# Altium schematic symbol library SGK_DVR_01_Library.SchLib: 230 symbols (part 2 of 3)
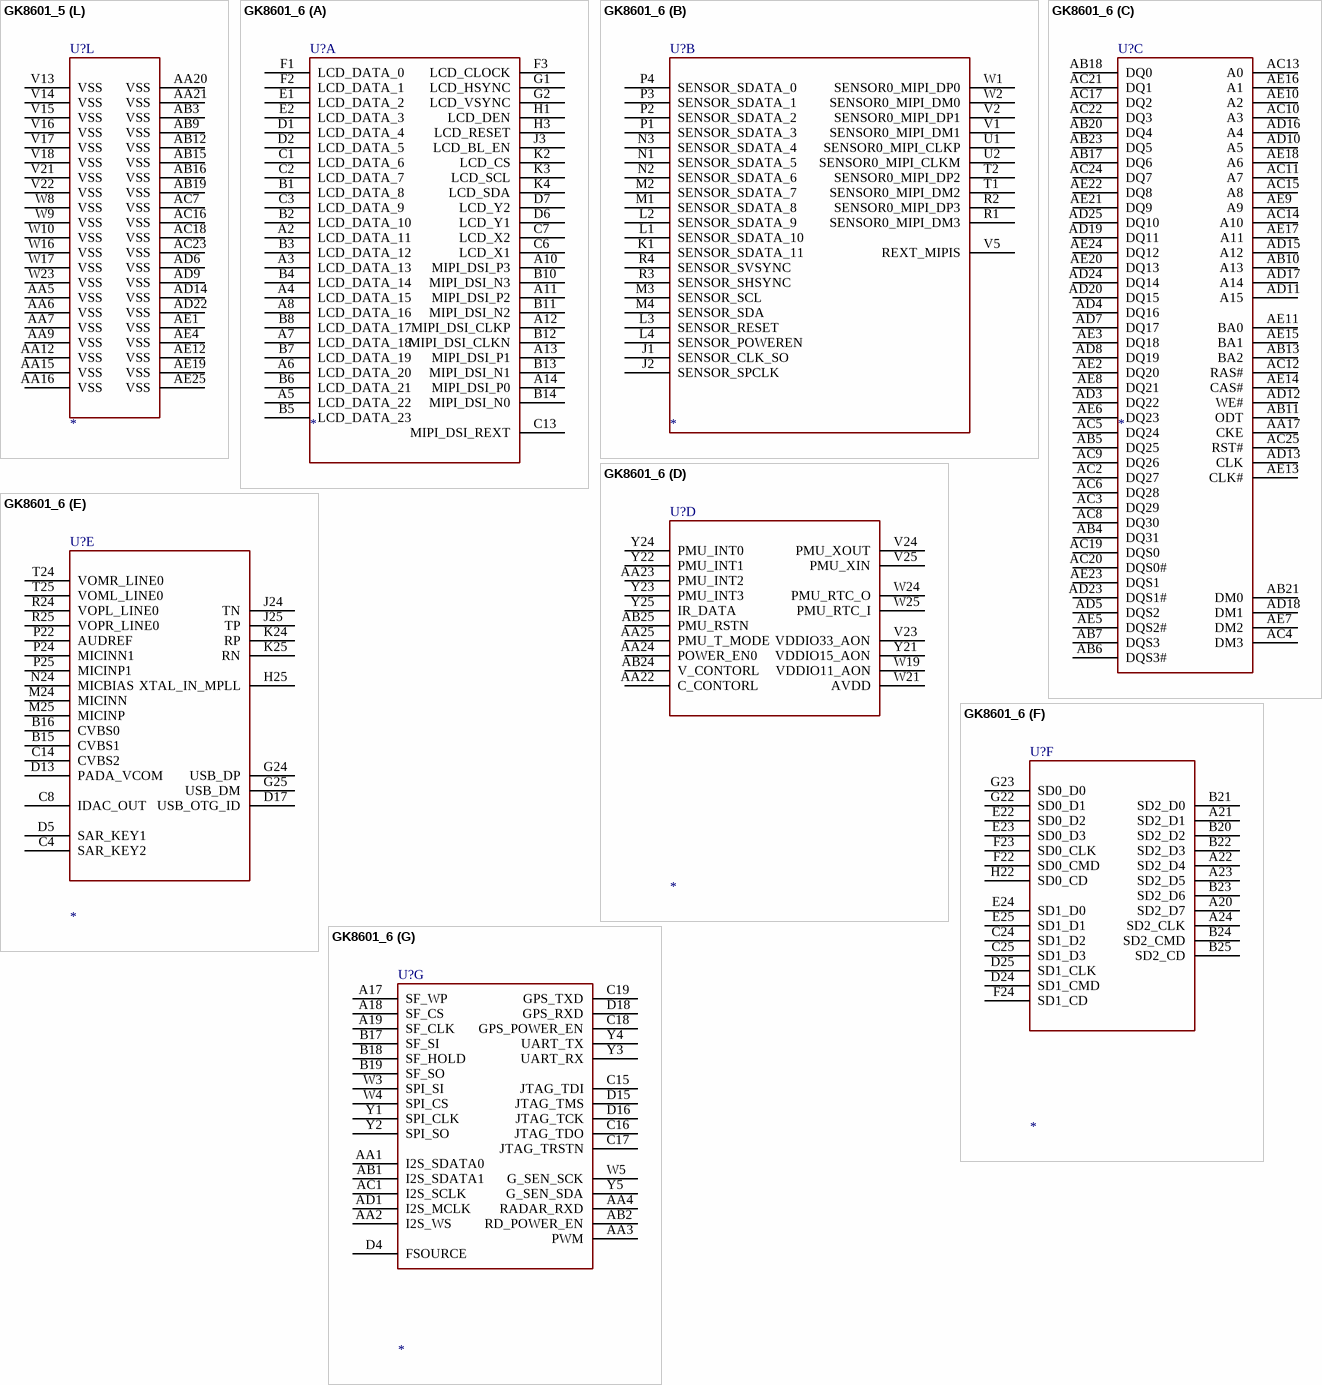
[diagram p31: symbols GK8601_5 to GK8601_6]

## GK8601_5
designator U?
part A pins: A2 LCD_DATA_11, A3 LCD_DATA_13, A4 LCD_DATA_15, A5 LCD_DATA_22, A6 LCD_DATA_20, A7 LCD_DATA_18, A8 LCD_DATA_16, A10 MIPI_DSI_P3, A11 MIPI_DSI_P2, A12 MIPI_DSI_CLKP, A13 MIPI_DSI_P1, A14 MIPI_DSI_P0, B1 LCD_DATA_8, B2 LCD_DATA_10, B3 LCD_DATA_12, B4 LCD_DATA_14, B5 LCD_DATA_23, B6 LCD_DATA_21, B7 LCD_DATA_19, B8 LCD_DATA_17, B10 MIPI_DSI_N3, B11 MIPI_DSI_N2, B12 MIPI_DSI_CLKN, B13 MIPI_DSI_N1, B14 MIPI_DSI_N0, C1 LCD_DATA_6, C2 LCD_DATA_7, C3 LCD_DATA_9, C6 LCD_X1, C7 LCD_X2, C13 MIPI_DSI_REXT, D1 LCD_DATA_4, D2 LCD_DATA_5, D6 LCD_Y1, D7 LCD_Y2, E1 LCD_DATA_2, E2 LCD_DATA_3, F1 LCD_DATA_0, F2 LCD_DATA_1, F3 LCD_CLOCK, G1 LCD_HSYNC, G2 LCD_VSYNC, H1 LCD_DEN, H3 LCD_RESET, J3 LCD_BL_EN, K2 LCD_CS, K3 LCD_SCL, K4 LCD_SDA
part B pins: J1 SENSOR_CLK_SO, J2 SENSOR_SPCLK, K1 SENSOR_SDATA_11, L1 SENSOR_SDATA_10, L2 SENSOR_SDATA_9, L3 SENSOR_RESET, L4 SENSOR_POWEREN, M1 SENSOR_SDATA_8, M2 SENSOR_SDATA_7, M3 SENSOR_SCL, M4 SENSOR_SDA, N1 SENSOR_SDATA_5, N2 SENSOR_SDATA_6, N3 SENSOR_SDATA_4, P1 SENSOR_SDATA_3, P2 SENSOR_SDATA_2, P3 SENSOR_SDATA_1, P4 SENSOR_SDATA_0, R1 SENSOR0_MIPI_DM3, R2 SENSOR0_MIPI_DP3, R3 SENSOR_SHSYNC, R4 SENSOR_SVSYNC, T1 SENSOR0_MIPI_DM2, T2 SENSOR0_MIPI_DP2, U1 SENSOR0_MIPI_CLKP, U2 SENSOR0_MIPI_CLKM, V1 SENSOR0_MIPI_DM1, V2 SENSOR0_MIPI_DP1, V5 REXT_MIPIS, W1 SENSOR0_MIPI_DP0, W2 SENSOR0_MIPI_DM0
part C pins: AA17 CKE, AB4 DQ31, AB5 DQ25, AB6 DQS3#, AB7 DQS3, AB10 A13, AB11 ODT, AB13 BA2, AB17 DQ6, AB18 DQ0, AB20 DQ4, AB21 DM0, AB23 DQ5, AC2 DQ27, AC3 DQ29, AC4 DM3, AC5 DQ24, AC6 DQ28, AC8 DQ30, AC9 DQ26, AC10 A3, AC11 A7, AC12 RAS#, AC13 A0, AC14 A10, AC15 A8, AC17 DQ2, AC19 DQS0, AC20 DQS0#, AC21 DQ1, AC22 DQ3, AC24 DQ7, AC25 RST#, AD3 DQ22, AD4 DQ16, AD5 DQS2, AD7 DQ17, AD8 DQ19, AD10 A5, AD11 A15, AD12 WE#, AD13 CLK, AD15 A12, AD16 A4, AD17 A14, AD18 DM1, AD19 DQ11, AD20 DQ15, AD23 DQS1#, AD24 DQ14, AD25 DQ10, AE2 DQ20, AE3 DQ18, AE5 DQS2#, AE6 DQ23, AE7 DM2, AE8 DQ21, AE9 A9, AE10 A2, AE11 BA0, AE13 CLK#, AE14 CAS#, AE15 BA1, AE16 A1, AE17 A11, AE18 A6, AE20 DQ13, AE21 DQ9, AE22 DQ8, AE23 DQS1, AE24 DQ12
part D pins: AA22 C_CONTORL, AA23 PMU_INT2, AA24 POWER_EN0, AA25 PMU_T_MODE, AB24 V_CONTORL, AB25 PMU_RSTN, V23 VDDIO33_AON, V24 PMU_XOUT, V25 PMU_XIN, W19 VDDIO11_AON, W21 AVDD, W24 PMU_RTC_O, W25 PMU_RTC_I, Y21 VDDIO15_AON, Y22 PMU_INT1, Y23 PMU_INT3, Y24 PMU_INT0, Y25 IR_DATA
part E pins: B15 CVBS1, B16 CVBS0, C4 SAR_KEY2, C8 IDAC_OUT, C14 CVBS2, D5 SAR_KEY1, D13 PADA_VCOM, D17 USB_OTG_ID, G24 USB_DP, G25 USB_DM, H25 XTAL_IN_MPLL, J24 TN, J25 TP, K24 RP, K25 RN, M24 MICINN, M25 MICINP, N24 MICBIAS, P22 AUDREF, P24 MICINN1, P25 MICINP1, R24 VOPL_LINE0, R25 VOPR_LINE0, T24 VOMR_LINE0, T25 VOML_LINE0
part F pins: A20 SD2_D7, A21 SD2_D1, A22 SD2_D4, A23 SD2_D5, A24 SD2_CLK, B20 SD2_D2, B21 SD2_D0, B22 SD2_D3, B23 SD2_D6, B24 SD2_CMD, B25 SD2_CD, C24 SD1_D2, C25 SD1_D3, D24 SD1_CMD, D25 SD1_CLK, E22 SD0_D2, E23 SD0_D3, E24 SD1_D0, E25 SD1_D1, F22 SD0_CMD, F23 SD0_CLK, F24 SD1_CD, G22 SD0_D1, G23 SD0_D0, H22 SD0_CD
part G pins: A17 SF_WP, A18 SF_CS, A19 SF_CLK, AA1 I2S_SDATA0, AA2 I2S_WS, AA3 PWM, AA4 RADAR_RXD, AB1 I2S_SDATA1, AB2 RD_POWER_EN, AC1 I2S_SCLK, AD1 I2S_MCLK, B17 SF_SI, B18 SF_HOLD, B19 SF_SO, C15 JTAG_TDI, C16 JTAG_TDO, C17 JTAG_TRSTN, C18 GPS_POWER_EN, C19 GPS_TXD, D4 FSOURCE, D15 JTAG_TMS, D16 JTAG_TCK, D18 GPS_RXD, W3 SPI_SI, W4 SPI_CS, W5 G_SEN_SCK, Y1 SPI_CLK, Y2 SPI_SO, Y3 UART_RX, Y4 UART_TX, Y5 G_SEN_SDA
part H pins: AA8 VDD11, AA10 DVDD_DDR, AA11 VDD11, AA13 VDD15, AA14 VDD15, AA18 VDD11, AA19 VDD11, AB8 VDD15, AB14 VDD15, AB22 VREF, AD2 VDD15, AD21 VDD15, C20 VDDIO33_SD2, D9 AVDD_MIPIM, D21 VDD11, D22 VDDIO33_SD1, E6 AVDD3P2_AUX_, E8 AVDD33_IDAC, E9 AVDD_MIPIM, E12 AVDD3P3_VIDEO, E14 VDDIO33, E15 VDDIO33, E16 VDDIO33_ARM, E17 VDD11_ARM, E20 VDD11, E21 VDD11, G3 VDDIO33, G4 VDDIO33, G5 VDDIO33, G16 VDD11_ARM, H23 VDDIO33, J4 VDD11, J5 VDD11, J21 VDD11_ARM, J22 VDDIO33_ARM, K5 VDD11, K21 AVDDLV_USB, K22 AVDD3P3_USB, L5 VDD11, L22 AVDD33_MPLL, M22 AVDD11_PLL, M23 AVDD33_PLL, N5 VDDIO33_SR, N21 VDDIO33, P5 VDDIO33_SR, P21 AVDD33_ETH, R5 VDD11, R21 VABB_DRV_AUDIO, U3 AVDD_MIPIS, U4 AVDD_MIPIS, U5 AVDD_MIPIS, U19 VDD11, U21 VDD11, V7 VDDIO33, V19 VDD11, W7 VDDIO33, W11 AVDD_PLL, W12 VDD15, W13 VDD15, W14 VDD15, W15 VDD11, W18 DVDD_DDR, W22 VDDIO33
part I pins: A1 VSS, A9 VSS, A15 AVSS_ADC, A16 AVSS_ADC, A25 VSS, B9 AGND, C5 VSS, C9 VSS, C10 AGND, C11 AGND, C12 AGND, C21 VSS, C22 VSS, C23 VSS, D3 VSS, D8 VSS, D10 AGND, D11 VSS, D12 VSS, D14 VSS, D19 VSS, D20 VSS, D23 VSS, E3 VSS, E4 VSS, E5 VSS, E7 VSS, E10 AGND, E11 VSS, E13 VSS, E18 VSS, E19 VSS, F4 VSS, F5 VSS, F21 VSS, F25 AVSS_USB, G7 VSS, G8 VSS, G9 VSS, G10 VSS, G11 VSS, G12 VSS, G13 VSS, G14 VSS, G15 VSS, G17 VSS, G18 VSS, G19 VSS, G21 VSS, H2 VSS, H4 VSS, H5 VSS, H6 VSS, H7 VSS, H8 VSS, H9 VSS, H10 VSS, H11 VSS, H12 VSS, H24 AVSS_USB, L21 AVSS_MPLL, M21 AVSS33_PLL, N25 GNDAUD_AUDIO, P23 GNDAUD_AUDIO, R23 GNDAUD_AUDIO, T3 AGND_MIPIS, T4 AGND_MIPIS, T5 AGND_MIPIS, T22 GNDAUD_AUDIO, T23 GNDAUD_AUDIO, V3 AGND_MIPIS, V4 AGND_MIPIS
part J pins: H13 VSS, H14 VSS, H15 VSS, H16 VSS, H17 VSS, H18 VSS, H19 VSS, H20 VSS, J7 VSS, J8 VSS, J9 VSS, J10 VSS, J11 VSS, J12 VSS, J13 VSS, J14 VSS, J15 VSS, J16 VSS, J17 VSS, J18 VSS, J19 VSS, J23 VSS, K7 VSS, K8 VSS, K9 VSS, K10 VSS, K11 VSS, K12 VSS, K13 VSS, K14 VSS, K15 VSS, K16 VSS, K17 VSS, K18 VSS, K19 VSS, K23 VSS, L7 VSS, L8 VSS, L9 VSS, L10 VSS, L11 VSS, L12 VSS, L13 VSS, L14 VSS, L15 VSS, L16 VSS, L17 VSS, L18 VSS, L19 VSS, L23 VSS, L24 VSS, L25 VSS, M5 VSS, M7 VSS, M8 VSS, M9 VSS, M10 VSS, M11 VSS, M12 VSS, M13 VSS, M14 VSS, M15 VSS, M16 VSS, M17 VSS, M18 VSS, M19 VSS, N4 VSS, N7 VSS, N8 VSS, N9 VSS, N10 VSS, N11 VSS
part K pins: N12 VSS, N13 VSS, N14 VSS, N15 VSS, N16 VSS, N17 VSS, N18 VSS, N19 VSS, N22 VSS, N23 VSS, P7 VSS, P8 VSS, P9 VSS, P10 VSS, P11 VSS, P12 VSS, P13 VSS, P14 VSS, P15 VSS, P16 VSS, P17 VSS, P18 VSS, P19 VSS, R7 VSS, R8 VSS, R9 VSS, R10 VSS, R11 VSS, R12 VSS, R13 VSS, R14 VSS, R15 VSS, R16 VSS, R17 VSS, R18 VSS, R19 VSS, R22 VSS, T7 VSS, T8 VSS, T9 VSS, T10 VSS, T11 VSS, T12 VSS, T13 VSS, T14 VSS, T15 VSS, T16 VSS, T17 VSS, T18 VSS, T19 VSS, T21 VSS, U7 VSS, U8 VSS, U9 VSS, U10 VSS, U11 VSS, U12 VSS, U13 VSS, U14 VSS, U15 VSS, U16 VSS, U17 VSS, U18 VSS, U22 VSS, U23 VSS, U24 VSS, U25 VSS, V8 VSS, V9 VSS, V10 VSS, V11 VSS, V12 VSS
part L pins: AA5 VSS, AA6 VSS, AA7 VSS, AA9 VSS, AA12 VSS, AA15 VSS, AA16 VSS, AA20 VSS, AA21 VSS, AB3 VSS, AB9 VSS, AB12 VSS, AB15 VSS, AB16 VSS, AB19 VSS, AC7 VSS, AC16 VSS, AC18 VSS, AC23 VSS, AD6 VSS, AD9 VSS, AD14 VSS, AD22 VSS, AE1 VSS, AE4 VSS, AE12 VSS, AE19 VSS, AE25 VSS, V13 VSS, V14 VSS, V15 VSS, V16 VSS, V17 VSS, V18 VSS, V21 VSS, V22 VSS, W8 VSS, W9 VSS, W10 VSS, W16 VSS, W17 VSS, W23 VSS

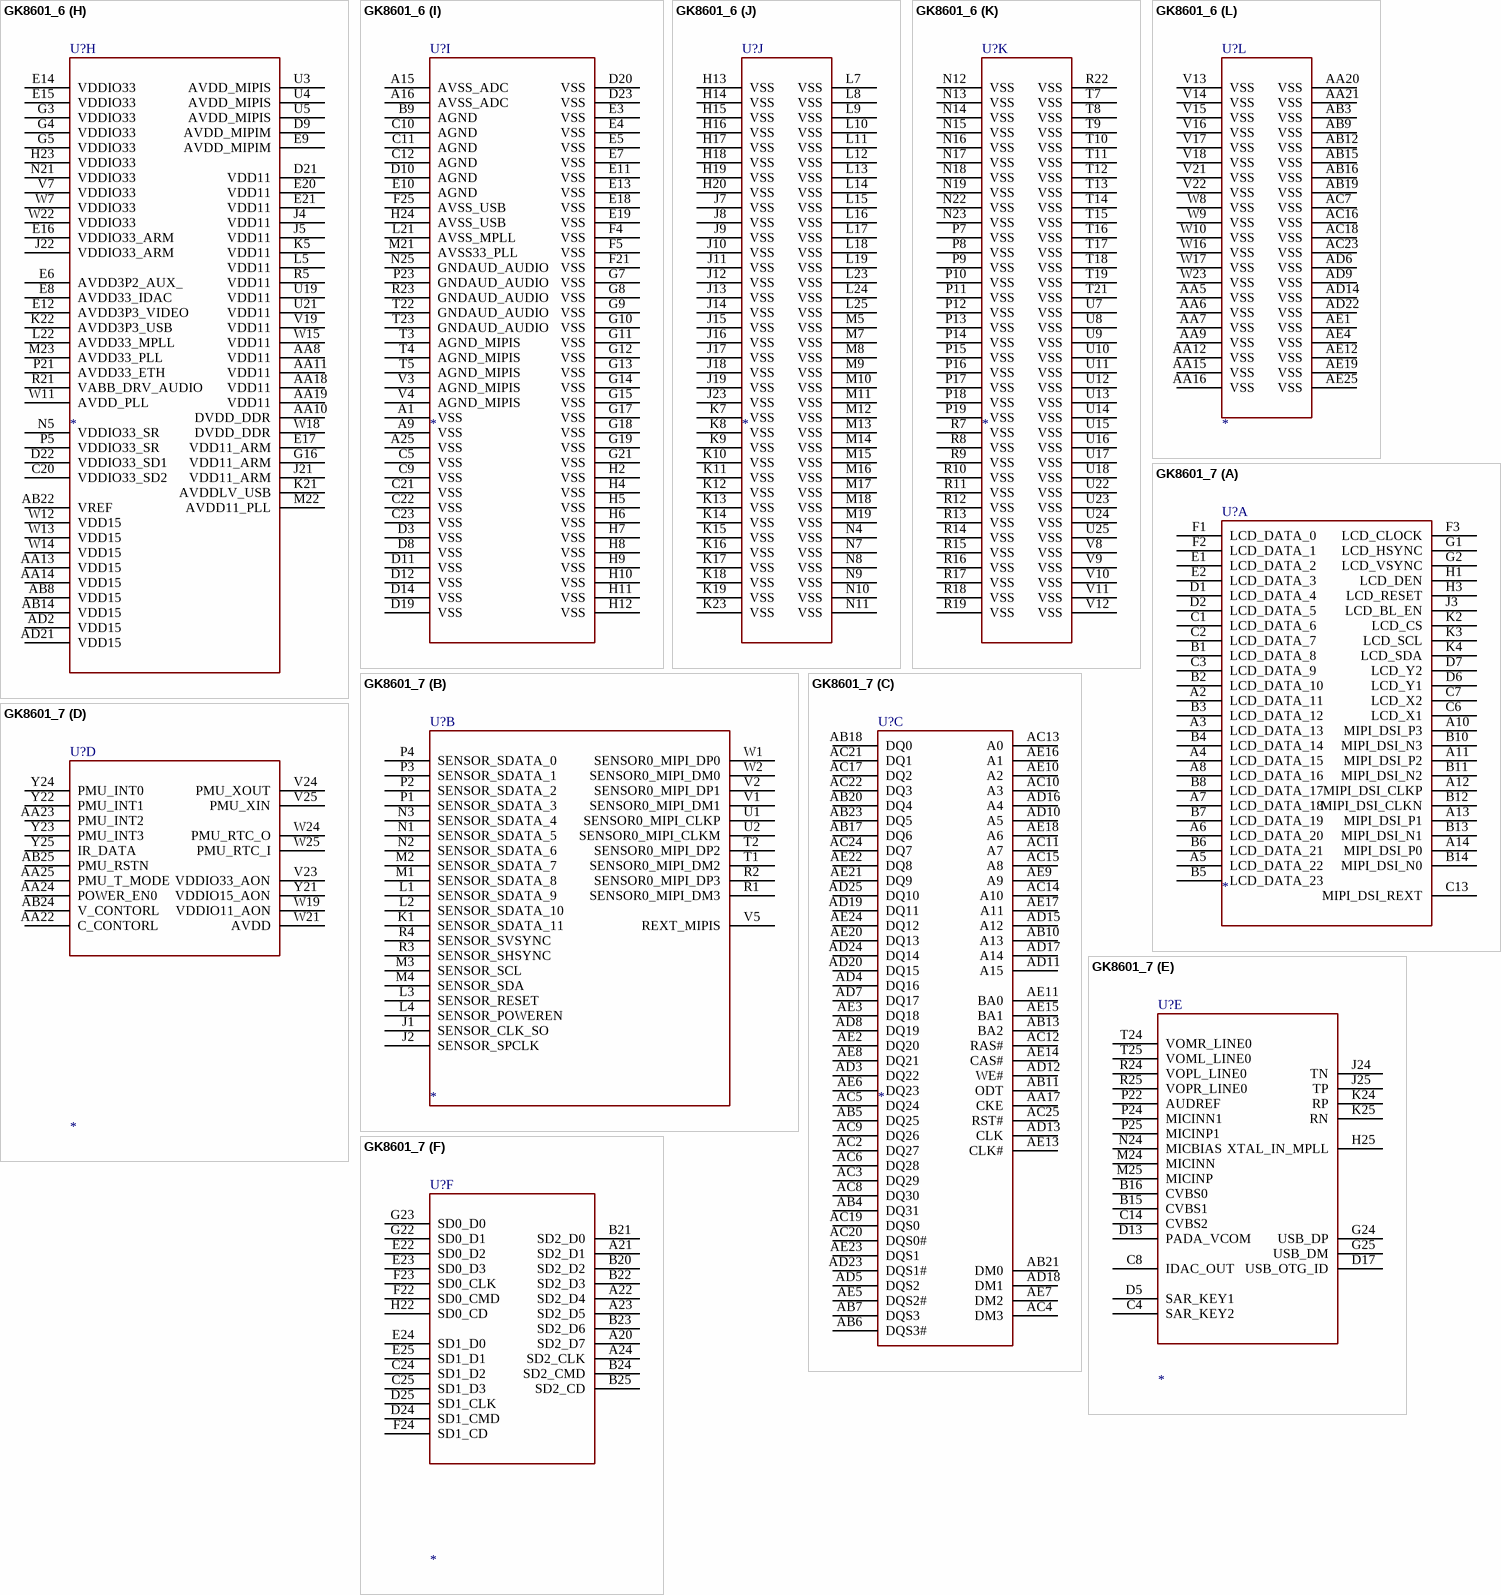
[diagram p12: symbols GK8601_6 to GK8601_7]

## GK8601_6
designator U?
part A pins: A2 LCD_DATA_11, A3 LCD_DATA_13, A4 LCD_DATA_15, A5 LCD_DATA_22, A6 LCD_DATA_20, A7 LCD_DATA_18, A8 LCD_DATA_16, A10 MIPI_DSI_P3, A11 MIPI_DSI_P2, A12 MIPI_DSI_CLKP, A13 MIPI_DSI_P1, A14 MIPI_DSI_P0, B1 LCD_DATA_8, B2 LCD_DATA_10, B3 LCD_DATA_12, B4 LCD_DATA_14, B5 LCD_DATA_23, B6 LCD_DATA_21, B7 LCD_DATA_19, B8 LCD_DATA_17, B10 MIPI_DSI_N3, B11 MIPI_DSI_N2, B12 MIPI_DSI_CLKN, B13 MIPI_DSI_N1, B14 MIPI_DSI_N0, C1 LCD_DATA_6, C2 LCD_DATA_7, C3 LCD_DATA_9, C6 LCD_X1, C7 LCD_X2, C13 MIPI_DSI_REXT, D1 LCD_DATA_4, D2 LCD_DATA_5, D6 LCD_Y1, D7 LCD_Y2, E1 LCD_DATA_2, E2 LCD_DATA_3, F1 LCD_DATA_0, F2 LCD_DATA_1, F3 LCD_CLOCK, G1 LCD_HSYNC, G2 LCD_VSYNC, H1 LCD_DEN, H3 LCD_RESET, J3 LCD_BL_EN, K2 LCD_CS, K3 LCD_SCL, K4 LCD_SDA
part B pins: J1 SENSOR_CLK_SO, J2 SENSOR_SPCLK, K1 SENSOR_SDATA_11, L1 SENSOR_SDATA_10, L2 SENSOR_SDATA_9, L3 SENSOR_RESET, L4 SENSOR_POWEREN, M1 SENSOR_SDATA_8, M2 SENSOR_SDATA_7, M3 SENSOR_SCL, M4 SENSOR_SDA, N1 SENSOR_SDATA_5, N2 SENSOR_SDATA_6, N3 SENSOR_SDATA_4, P1 SENSOR_SDATA_3, P2 SENSOR_SDATA_2, P3 SENSOR_SDATA_1, P4 SENSOR_SDATA_0, R1 SENSOR0_MIPI_DM3, R2 SENSOR0_MIPI_DP3, R3 SENSOR_SHSYNC, R4 SENSOR_SVSYNC, T1 SENSOR0_MIPI_DM2, T2 SENSOR0_MIPI_DP2, U1 SENSOR0_MIPI_CLKP, U2 SENSOR0_MIPI_CLKM, V1 SENSOR0_MIPI_DM1, V2 SENSOR0_MIPI_DP1, V5 REXT_MIPIS, W1 SENSOR0_MIPI_DP0, W2 SENSOR0_MIPI_DM0
part C pins: AA17 CKE, AB4 DQ31, AB5 DQ25, AB6 DQS3#, AB7 DQS3, AB10 A13, AB11 ODT, AB13 BA2, AB17 DQ6, AB18 DQ0, AB20 DQ4, AB21 DM0, AB23 DQ5, AC2 DQ27, AC3 DQ29, AC4 DM3, AC5 DQ24, AC6 DQ28, AC8 DQ30, AC9 DQ26, AC10 A3, AC11 A7, AC12 RAS#, AC13 A0, AC14 A10, AC15 A8, AC17 DQ2, AC19 DQS0, AC20 DQS0#, AC21 DQ1, AC22 DQ3, AC24 DQ7, AC25 RST#, AD3 DQ22, AD4 DQ16, AD5 DQS2, AD7 DQ17, AD8 DQ19, AD10 A5, AD11 A15, AD12 WE#, AD13 CLK, AD15 A12, AD16 A4, AD17 A14, AD18 DM1, AD19 DQ11, AD20 DQ15, AD23 DQS1#, AD24 DQ14, AD25 DQ10, AE2 DQ20, AE3 DQ18, AE5 DQS2#, AE6 DQ23, AE7 DM2, AE8 DQ21, AE9 A9, AE10 A2, AE11 BA0, AE13 CLK#, AE14 CAS#, AE15 BA1, AE16 A1, AE17 A11, AE18 A6, AE20 DQ13, AE21 DQ9, AE22 DQ8, AE23 DQS1, AE24 DQ12
part D pins: AA22 C_CONTORL, AA23 PMU_INT2, AA24 POWER_EN0, AA25 PMU_T_MODE, AB24 V_CONTORL, AB25 PMU_RSTN, V23 VDDIO33_AON, V24 PMU_XOUT, V25 PMU_XIN, W19 VDDIO11_AON, W21 AVDD, W24 PMU_RTC_O, W25 PMU_RTC_I, Y21 VDDIO15_AON, Y22 PMU_INT1, Y23 PMU_INT3, Y24 PMU_INT0, Y25 IR_DATA
part E pins: B15 CVBS1, B16 CVBS0, C4 SAR_KEY2, C8 IDAC_OUT, C14 CVBS2, D5 SAR_KEY1, D13 PADA_VCOM, D17 USB_OTG_ID, G24 USB_DP, G25 USB_DM, H25 XTAL_IN_MPLL, J24 TN, J25 TP, K24 RP, K25 RN, M24 MICINN, M25 MICINP, N24 MICBIAS, P22 AUDREF, P24 MICINN1, P25 MICINP1, R24 VOPL_LINE0, R25 VOPR_LINE0, T24 VOMR_LINE0, T25 VOML_LINE0
part F pins: A20 SD2_D7, A21 SD2_D1, A22 SD2_D4, A23 SD2_D5, A24 SD2_CLK, B20 SD2_D2, B21 SD2_D0, B22 SD2_D3, B23 SD2_D6, B24 SD2_CMD, B25 SD2_CD, C24 SD1_D2, C25 SD1_D3, D24 SD1_CMD, D25 SD1_CLK, E22 SD0_D2, E23 SD0_D3, E24 SD1_D0, E25 SD1_D1, F22 SD0_CMD, F23 SD0_CLK, F24 SD1_CD, G22 SD0_D1, G23 SD0_D0, H22 SD0_CD
part G pins: A17 SF_WP, A18 SF_CS, A19 SF_CLK, AA1 I2S_SDATA0, AA2 I2S_WS, AA3 PWM, AA4 RADAR_RXD, AB1 I2S_SDATA1, AB2 RD_POWER_EN, AC1 I2S_SCLK, AD1 I2S_MCLK, B17 SF_SI, B18 SF_HOLD, B19 SF_SO, C15 JTAG_TDI, C16 JTAG_TDO, C17 JTAG_TRSTN, C18 GPS_POWER_EN, C19 GPS_TXD, D4 FSOURCE, D15 JTAG_TMS, D16 JTAG_TCK, D18 GPS_RXD, W3 SPI_SI, W4 SPI_CS, W5 G_SEN_SCK, Y1 SPI_CLK, Y2 SPI_SO, Y3 UART_RX, Y4 UART_TX, Y5 G_SEN_SDA
part H pins: AA8 VDD11, AA10 DVDD_DDR, AA11 VDD11, AA13 VDD15, AA14 VDD15, AA18 VDD11, AA19 VDD11, AB8 VDD15, AB14 VDD15, AB22 VREF, AD2 VDD15, AD21 VDD15, C20 VDDIO33_SD2, D9 AVDD_MIPIM, D21 VDD11, D22 VDDIO33_SD1, E6 AVDD3P2_AUX_, E8 AVDD33_IDAC, E9 AVDD_MIPIM, E12 AVDD3P3_VIDEO, E14 VDDIO33, E15 VDDIO33, E16 VDDIO33_ARM, E17 VDD11_ARM, E20 VDD11, E21 VDD11, G3 VDDIO33, G4 VDDIO33, G5 VDDIO33, G16 VDD11_ARM, H23 VDDIO33, J4 VDD11, J5 VDD11, J21 VDD11_ARM, J22 VDDIO33_ARM, K5 VDD11, K21 AVDDLV_USB, K22 AVDD3P3_USB, L5 VDD11, L22 AVDD33_MPLL, M22 AVDD11_PLL, M23 AVDD33_PLL, N5 VDDIO33_SR, N21 VDDIO33, P5 VDDIO33_SR, P21 AVDD33_ETH, R5 VDD11, R21 VABB_DRV_AUDIO, U3 AVDD_MIPIS, U4 AVDD_MIPIS, U5 AVDD_MIPIS, U19 VDD11, U21 VDD11, V7 VDDIO33, V19 VDD11, W7 VDDIO33, W11 AVDD_PLL, W12 VDD15, W13 VDD15, W14 VDD15, W15 VDD11, W18 DVDD_DDR, W22 VDDIO33
part I pins: A1 VSS, A9 VSS, A15 AVSS_ADC, A16 AVSS_ADC, A25 VSS, B9 AGND, C5 VSS, C9 VSS, C10 AGND, C11 AGND, C12 AGND, C21 VSS, C22 VSS, C23 VSS, D3 VSS, D8 VSS, D10 AGND, D11 VSS, D12 VSS, D14 VSS, D19 VSS, D20 VSS, D23 VSS, E3 VSS, E4 VSS, E5 VSS, E7 VSS, E10 AGND, E11 VSS, E13 VSS, E18 VSS, E19 VSS, F4 VSS, F5 VSS, F21 VSS, F25 AVSS_USB, G7 VSS, G8 VSS, G9 VSS, G10 VSS, G11 VSS, G12 VSS, G13 VSS, G14 VSS, G15 VSS, G17 VSS, G18 VSS, G19 VSS, G21 VSS, H2 VSS, H4 VSS, H5 VSS, H6 VSS, H7 VSS, H8 VSS, H9 VSS, H10 VSS, H11 VSS, H12 VSS, H24 AVSS_USB, L21 AVSS_MPLL, M21 AVSS33_PLL, N25 GNDAUD_AUDIO, P23 GNDAUD_AUDIO, R23 GNDAUD_AUDIO, T3 AGND_MIPIS, T4 AGND_MIPIS, T5 AGND_MIPIS, T22 GNDAUD_AUDIO, T23 GNDAUD_AUDIO, V3 AGND_MIPIS, V4 AGND_MIPIS
part J pins: H13 VSS, H14 VSS, H15 VSS, H16 VSS, H17 VSS, H18 VSS, H19 VSS, H20 VSS, J7 VSS, J8 VSS, J9 VSS, J10 VSS, J11 VSS, J12 VSS, J13 VSS, J14 VSS, J15 VSS, J16 VSS, J17 VSS, J18 VSS, J19 VSS, J23 VSS, K7 VSS, K8 VSS, K9 VSS, K10 VSS, K11 VSS, K12 VSS, K13 VSS, K14 VSS, K15 VSS, K16 VSS, K17 VSS, K18 VSS, K19 VSS, K23 VSS, L7 VSS, L8 VSS, L9 VSS, L10 VSS, L11 VSS, L12 VSS, L13 VSS, L14 VSS, L15 VSS, L16 VSS, L17 VSS, L18 VSS, L19 VSS, L23 VSS, L24 VSS, L25 VSS, M5 VSS, M7 VSS, M8 VSS, M9 VSS, M10 VSS, M11 VSS, M12 VSS, M13 VSS, M14 VSS, M15 VSS, M16 VSS, M17 VSS, M18 VSS, M19 VSS, N4 VSS, N7 VSS, N8 VSS, N9 VSS, N10 VSS, N11 VSS
part K pins: N12 VSS, N13 VSS, N14 VSS, N15 VSS, N16 VSS, N17 VSS, N18 VSS, N19 VSS, N22 VSS, N23 VSS, P7 VSS, P8 VSS, P9 VSS, P10 VSS, P11 VSS, P12 VSS, P13 VSS, P14 VSS, P15 VSS, P16 VSS, P17 VSS, P18 VSS, P19 VSS, R7 VSS, R8 VSS, R9 VSS, R10 VSS, R11 VSS, R12 VSS, R13 VSS, R14 VSS, R15 VSS, R16 VSS, R17 VSS, R18 VSS, R19 VSS, R22 VSS, T7 VSS, T8 VSS, T9 VSS, T10 VSS, T11 VSS, T12 VSS, T13 VSS, T14 VSS, T15 VSS, T16 VSS, T17 VSS, T18 VSS, T19 VSS, T21 VSS, U7 VSS, U8 VSS, U9 VSS, U10 VSS, U11 VSS, U12 VSS, U13 VSS, U14 VSS, U15 VSS, U16 VSS, U17 VSS, U18 VSS, U22 VSS, U23 VSS, U24 VSS, U25 VSS, V8 VSS, V9 VSS, V10 VSS, V11 VSS, V12 VSS
part L pins: AA5 VSS, AA6 VSS, AA7 VSS, AA9 VSS, AA12 VSS, AA15 VSS, AA16 VSS, AA20 VSS, AA21 VSS, AB3 VSS, AB9 VSS, AB12 VSS, AB15 VSS, AB16 VSS, AB19 VSS, AC7 VSS, AC16 VSS, AC18 VSS, AC23 VSS, AD6 VSS, AD9 VSS, AD14 VSS, AD22 VSS, AE1 VSS, AE4 VSS, AE12 VSS, AE19 VSS, AE25 VSS, V13 VSS, V14 VSS, V15 VSS, V16 VSS, V17 VSS, V18 VSS, V21 VSS, V22 VSS, W8 VSS, W9 VSS, W10 VSS, W16 VSS, W17 VSS, W23 VSS

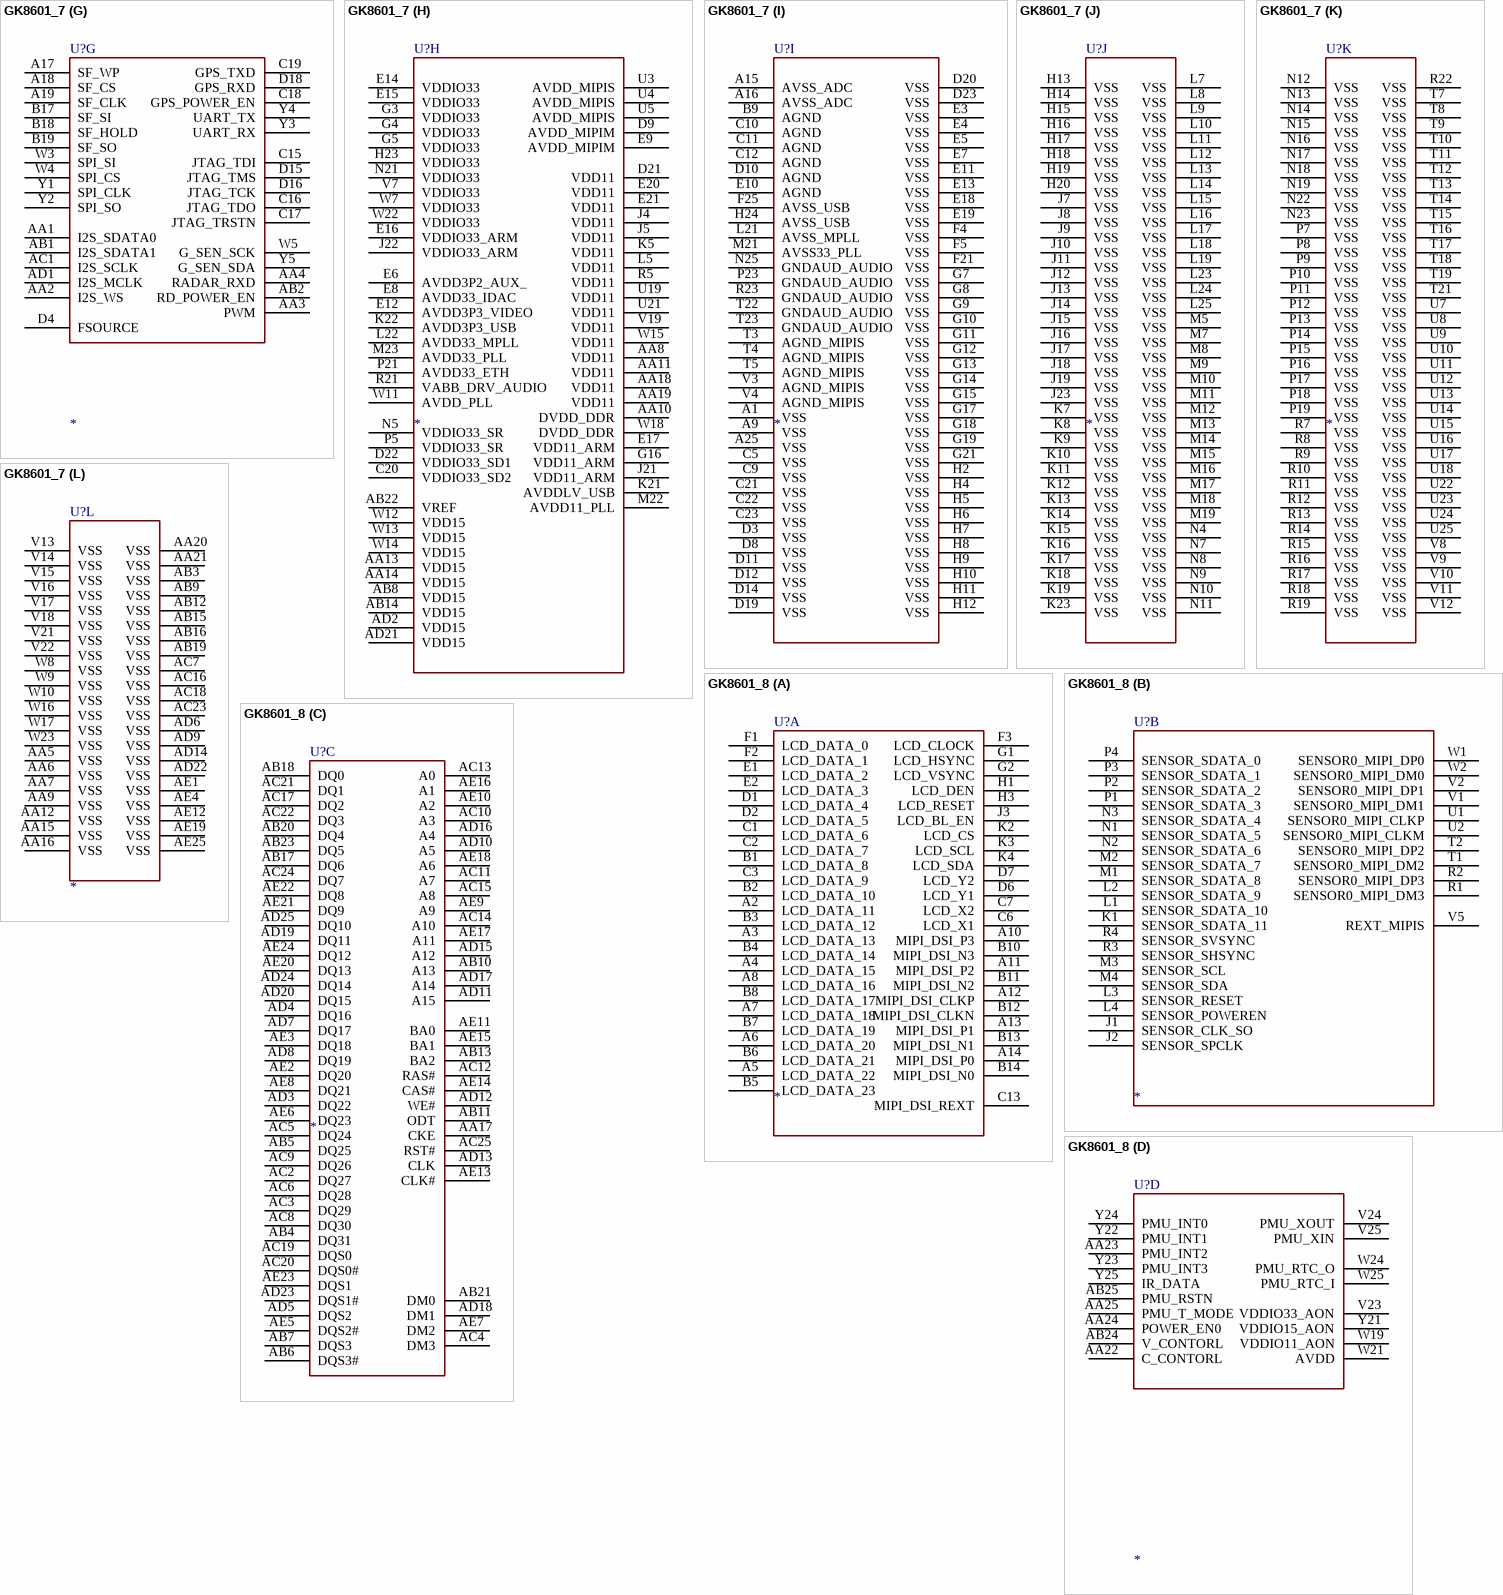
[diagram p13: symbols GK8601_7 to GK8601_8]

## GK8601_7
designator U?
footprint FBGA-569-0.65-17X17
part A pins: A2 LCD_DATA_11, A3 LCD_DATA_13, A4 LCD_DATA_15, A5 LCD_DATA_22, A6 LCD_DATA_20, A7 LCD_DATA_18, A8 LCD_DATA_16, A10 MIPI_DSI_P3, A11 MIPI_DSI_P2, A12 MIPI_DSI_CLKP, A13 MIPI_DSI_P1, A14 MIPI_DSI_P0, B1 LCD_DATA_8, B2 LCD_DATA_10, B3 LCD_DATA_12, B4 LCD_DATA_14, B5 LCD_DATA_23, B6 LCD_DATA_21, B7 LCD_DATA_19, B8 LCD_DATA_17, B10 MIPI_DSI_N3, B11 MIPI_DSI_N2, B12 MIPI_DSI_CLKN, B13 MIPI_DSI_N1, B14 MIPI_DSI_N0, C1 LCD_DATA_6, C2 LCD_DATA_7, C3 LCD_DATA_9, C6 LCD_X1, C7 LCD_X2, C13 MIPI_DSI_REXT, D1 LCD_DATA_4, D2 LCD_DATA_5, D6 LCD_Y1, D7 LCD_Y2, E1 LCD_DATA_2, E2 LCD_DATA_3, F1 LCD_DATA_0, F2 LCD_DATA_1, F3 LCD_CLOCK, G1 LCD_HSYNC, G2 LCD_VSYNC, H1 LCD_DEN, H3 LCD_RESET, J3 LCD_BL_EN, K2 LCD_CS, K3 LCD_SCL, K4 LCD_SDA
part B pins: J1 SENSOR_CLK_SO, J2 SENSOR_SPCLK, K1 SENSOR_SDATA_11, L1 SENSOR_SDATA_9, L2 SENSOR_SDATA_10, L3 SENSOR_RESET, L4 SENSOR_POWEREN, M1 SENSOR_SDATA_8, M2 SENSOR_SDATA_7, M3 SENSOR_SCL, M4 SENSOR_SDA, N1 SENSOR_SDATA_5, N2 SENSOR_SDATA_6, N3 SENSOR_SDATA_4, P1 SENSOR_SDATA_3, P2 SENSOR_SDATA_2, P3 SENSOR_SDATA_1, P4 SENSOR_SDATA_0, R1 SENSOR0_MIPI_DM3, R2 SENSOR0_MIPI_DP3, R3 SENSOR_SHSYNC, R4 SENSOR_SVSYNC, T1 SENSOR0_MIPI_DM2, T2 SENSOR0_MIPI_DP2, U1 SENSOR0_MIPI_CLKP, U2 SENSOR0_MIPI_CLKM, V1 SENSOR0_MIPI_DM1, V2 SENSOR0_MIPI_DP1, V5 REXT_MIPIS, W1 SENSOR0_MIPI_DP0, W2 SENSOR0_MIPI_DM0
part C pins: AA17 CKE, AB4 DQ31, AB5 DQ25, AB6 DQS3#, AB7 DQS3, AB10 A13, AB11 ODT, AB13 BA2, AB17 DQ6, AB18 DQ0, AB20 DQ4, AB21 DM0, AB23 DQ5, AC2 DQ27, AC3 DQ29, AC4 DM3, AC5 DQ24, AC6 DQ28, AC8 DQ30, AC9 DQ26, AC10 A3, AC11 A7, AC12 RAS#, AC13 A0, AC14 A10, AC15 A8, AC17 DQ2, AC19 DQS0, AC20 DQS0#, AC21 DQ1, AC22 DQ3, AC24 DQ7, AC25 RST#, AD3 DQ22, AD4 DQ16, AD5 DQS2, AD7 DQ17, AD8 DQ19, AD10 A5, AD11 A15, AD12 WE#, AD13 CLK, AD15 A12, AD16 A4, AD17 A14, AD18 DM1, AD19 DQ11, AD20 DQ15, AD23 DQS1#, AD24 DQ14, AD25 DQ10, AE2 DQ20, AE3 DQ18, AE5 DQS2#, AE6 DQ23, AE7 DM2, AE8 DQ21, AE9 A9, AE10 A2, AE11 BA0, AE13 CLK#, AE14 CAS#, AE15 BA1, AE16 A1, AE17 A11, AE18 A6, AE20 DQ13, AE21 DQ9, AE22 DQ8, AE23 DQS1, AE24 DQ12
part D pins: AA22 C_CONTORL, AA23 PMU_INT2, AA24 POWER_EN0, AA25 PMU_T_MODE, AB24 V_CONTORL, AB25 PMU_RSTN, V23 VDDIO33_AON, V24 PMU_XOUT, V25 PMU_XIN, W19 VDDIO11_AON, W21 AVDD, W24 PMU_RTC_O, W25 PMU_RTC_I, Y21 VDDIO15_AON, Y22 PMU_INT1, Y23 PMU_INT3, Y24 PMU_INT0, Y25 IR_DATA
part E pins: B15 CVBS1, B16 CVBS0, C4 SAR_KEY2, C8 IDAC_OUT, C14 CVBS2, D5 SAR_KEY1, D13 PADA_VCOM, D17 USB_OTG_ID, G24 USB_DP, G25 USB_DM, H25 XTAL_IN_MPLL, J24 TN, J25 TP, K24 RP, K25 RN, M24 MICINN, M25 MICINP, N24 MICBIAS, P22 AUDREF, P24 MICINN1, P25 MICINP1, R24 VOPL_LINE0, R25 VOPR_LINE0, T24 VOMR_LINE0, T25 VOML_LINE0
part F pins: A20 SD2_D7, A21 SD2_D1, A22 SD2_D4, A23 SD2_D5, A24 SD2_CLK, B20 SD2_D2, B21 SD2_D0, B22 SD2_D3, B23 SD2_D6, B24 SD2_CMD, B25 SD2_CD, C24 SD1_D2, C25 SD1_D3, D24 SD1_CMD, D25 SD1_CLK, E22 SD0_D2, E23 SD0_D3, E24 SD1_D0, E25 SD1_D1, F22 SD0_CMD, F23 SD0_CLK, F24 SD1_CD, G22 SD0_D1, G23 SD0_D0, H22 SD0_CD
part G pins: A17 SF_WP, A18 SF_CS, A19 SF_CLK, AA1 I2S_SDATA0, AA2 I2S_WS, AA3 PWM, AA4 RADAR_RXD, AB1 I2S_SDATA1, AB2 RD_POWER_EN, AC1 I2S_SCLK, AD1 I2S_MCLK, B17 SF_SI, B18 SF_HOLD, B19 SF_SO, C15 JTAG_TDI, C16 JTAG_TDO, C17 JTAG_TRSTN, C18 GPS_POWER_EN, C19 GPS_TXD, D4 FSOURCE, D15 JTAG_TMS, D16 JTAG_TCK, D18 GPS_RXD, W3 SPI_SI, W4 SPI_CS, W5 G_SEN_SCK, Y1 SPI_CLK, Y2 SPI_SO, Y3 UART_RX, Y4 UART_TX, Y5 G_SEN_SDA
part H pins: AA8 VDD11, AA10 DVDD_DDR, AA11 VDD11, AA13 VDD15, AA14 VDD15, AA18 VDD11, AA19 VDD11, AB8 VDD15, AB14 VDD15, AB22 VREF, AD2 VDD15, AD21 VDD15, C20 VDDIO33_SD2, D9 AVDD_MIPIM, D21 VDD11, D22 VDDIO33_SD1, E6 AVDD3P2_AUX_, E8 AVDD33_IDAC, E9 AVDD_MIPIM, E12 AVDD3P3_VIDEO, E14 VDDIO33, E15 VDDIO33, E16 VDDIO33_ARM, E17 VDD11_ARM, E20 VDD11, E21 VDD11, G3 VDDIO33, G4 VDDIO33, G5 VDDIO33, G16 VDD11_ARM, H23 VDDIO33, J4 VDD11, J5 VDD11, J21 VDD11_ARM, J22 VDDIO33_ARM, K5 VDD11, K21 AVDDLV_USB, K22 AVDD3P3_USB, L5 VDD11, L22 AVDD33_MPLL, M22 AVDD11_PLL, M23 AVDD33_PLL, N5 VDDIO33_SR, N21 VDDIO33, P5 VDDIO33_SR, P21 AVDD33_ETH, R5 VDD11, R21 VABB_DRV_AUDIO, U3 AVDD_MIPIS, U4 AVDD_MIPIS, U5 AVDD_MIPIS, U19 VDD11, U21 VDD11, V7 VDDIO33, V19 VDD11, W7 VDDIO33, W11 AVDD_PLL, W12 VDD15, W13 VDD15, W14 VDD15, W15 VDD11, W18 DVDD_DDR, W22 VDDIO33
part I pins: A1 VSS, A9 VSS, A15 AVSS_ADC, A16 AVSS_ADC, A25 VSS, B9 AGND, C5 VSS, C9 VSS, C10 AGND, C11 AGND, C12 AGND, C21 VSS, C22 VSS, C23 VSS, D3 VSS, D8 VSS, D10 AGND, D11 VSS, D12 VSS, D14 VSS, D19 VSS, D20 VSS, D23 VSS, E3 VSS, E4 VSS, E5 VSS, E7 VSS, E10 AGND, E11 VSS, E13 VSS, E18 VSS, E19 VSS, F4 VSS, F5 VSS, F21 VSS, F25 AVSS_USB, G7 VSS, G8 VSS, G9 VSS, G10 VSS, G11 VSS, G12 VSS, G13 VSS, G14 VSS, G15 VSS, G17 VSS, G18 VSS, G19 VSS, G21 VSS, H2 VSS, H4 VSS, H5 VSS, H6 VSS, H7 VSS, H8 VSS, H9 VSS, H10 VSS, H11 VSS, H12 VSS, H24 AVSS_USB, L21 AVSS_MPLL, M21 AVSS33_PLL, N25 GNDAUD_AUDIO, P23 GNDAUD_AUDIO, R23 GNDAUD_AUDIO, T3 AGND_MIPIS, T4 AGND_MIPIS, T5 AGND_MIPIS, T22 GNDAUD_AUDIO, T23 GNDAUD_AUDIO, V3 AGND_MIPIS, V4 AGND_MIPIS
part J pins: H13 VSS, H14 VSS, H15 VSS, H16 VSS, H17 VSS, H18 VSS, H19 VSS, H20 VSS, J7 VSS, J8 VSS, J9 VSS, J10 VSS, J11 VSS, J12 VSS, J13 VSS, J14 VSS, J15 VSS, J16 VSS, J17 VSS, J18 VSS, J19 VSS, J23 VSS, K7 VSS, K8 VSS, K9 VSS, K10 VSS, K11 VSS, K12 VSS, K13 VSS, K14 VSS, K15 VSS, K16 VSS, K17 VSS, K18 VSS, K19 VSS, K23 VSS, L7 VSS, L8 VSS, L9 VSS, L10 VSS, L11 VSS, L12 VSS, L13 VSS, L14 VSS, L15 VSS, L16 VSS, L17 VSS, L18 VSS, L19 VSS, L23 VSS, L24 VSS, L25 VSS, M5 VSS, M7 VSS, M8 VSS, M9 VSS, M10 VSS, M11 VSS, M12 VSS, M13 VSS, M14 VSS, M15 VSS, M16 VSS, M17 VSS, M18 VSS, M19 VSS, N4 VSS, N7 VSS, N8 VSS, N9 VSS, N10 VSS, N11 VSS
part K pins: N12 VSS, N13 VSS, N14 VSS, N15 VSS, N16 VSS, N17 VSS, N18 VSS, N19 VSS, N22 VSS, N23 VSS, P7 VSS, P8 VSS, P9 VSS, P10 VSS, P11 VSS, P12 VSS, P13 VSS, P14 VSS, P15 VSS, P16 VSS, P17 VSS, P18 VSS, P19 VSS, R7 VSS, R8 VSS, R9 VSS, R10 VSS, R11 VSS, R12 VSS, R13 VSS, R14 VSS, R15 VSS, R16 VSS, R17 VSS, R18 VSS, R19 VSS, R22 VSS, T7 VSS, T8 VSS, T9 VSS, T10 VSS, T11 VSS, T12 VSS, T13 VSS, T14 VSS, T15 VSS, T16 VSS, T17 VSS, T18 VSS, T19 VSS, T21 VSS, U7 VSS, U8 VSS, U9 VSS, U10 VSS, U11 VSS, U12 VSS, U13 VSS, U14 VSS, U15 VSS, U16 VSS, U17 VSS, U18 VSS, U22 VSS, U23 VSS, U24 VSS, U25 VSS, V8 VSS, V9 VSS, V10 VSS, V11 VSS, V12 VSS
part L pins: AA5 VSS, AA6 VSS, AA7 VSS, AA9 VSS, AA12 VSS, AA15 VSS, AA16 VSS, AA20 VSS, AA21 VSS, AB3 VSS, AB9 VSS, AB12 VSS, AB15 VSS, AB16 VSS, AB19 VSS, AC7 VSS, AC16 VSS, AC18 VSS, AC23 VSS, AD6 VSS, AD9 VSS, AD14 VSS, AD22 VSS, AE1 VSS, AE4 VSS, AE12 VSS, AE19 VSS, AE25 VSS, V13 VSS, V14 VSS, V15 VSS, V16 VSS, V17 VSS, V18 VSS, V21 VSS, V22 VSS, W8 VSS, W9 VSS, W10 VSS, W16 VSS, W17 VSS, W23 VSS

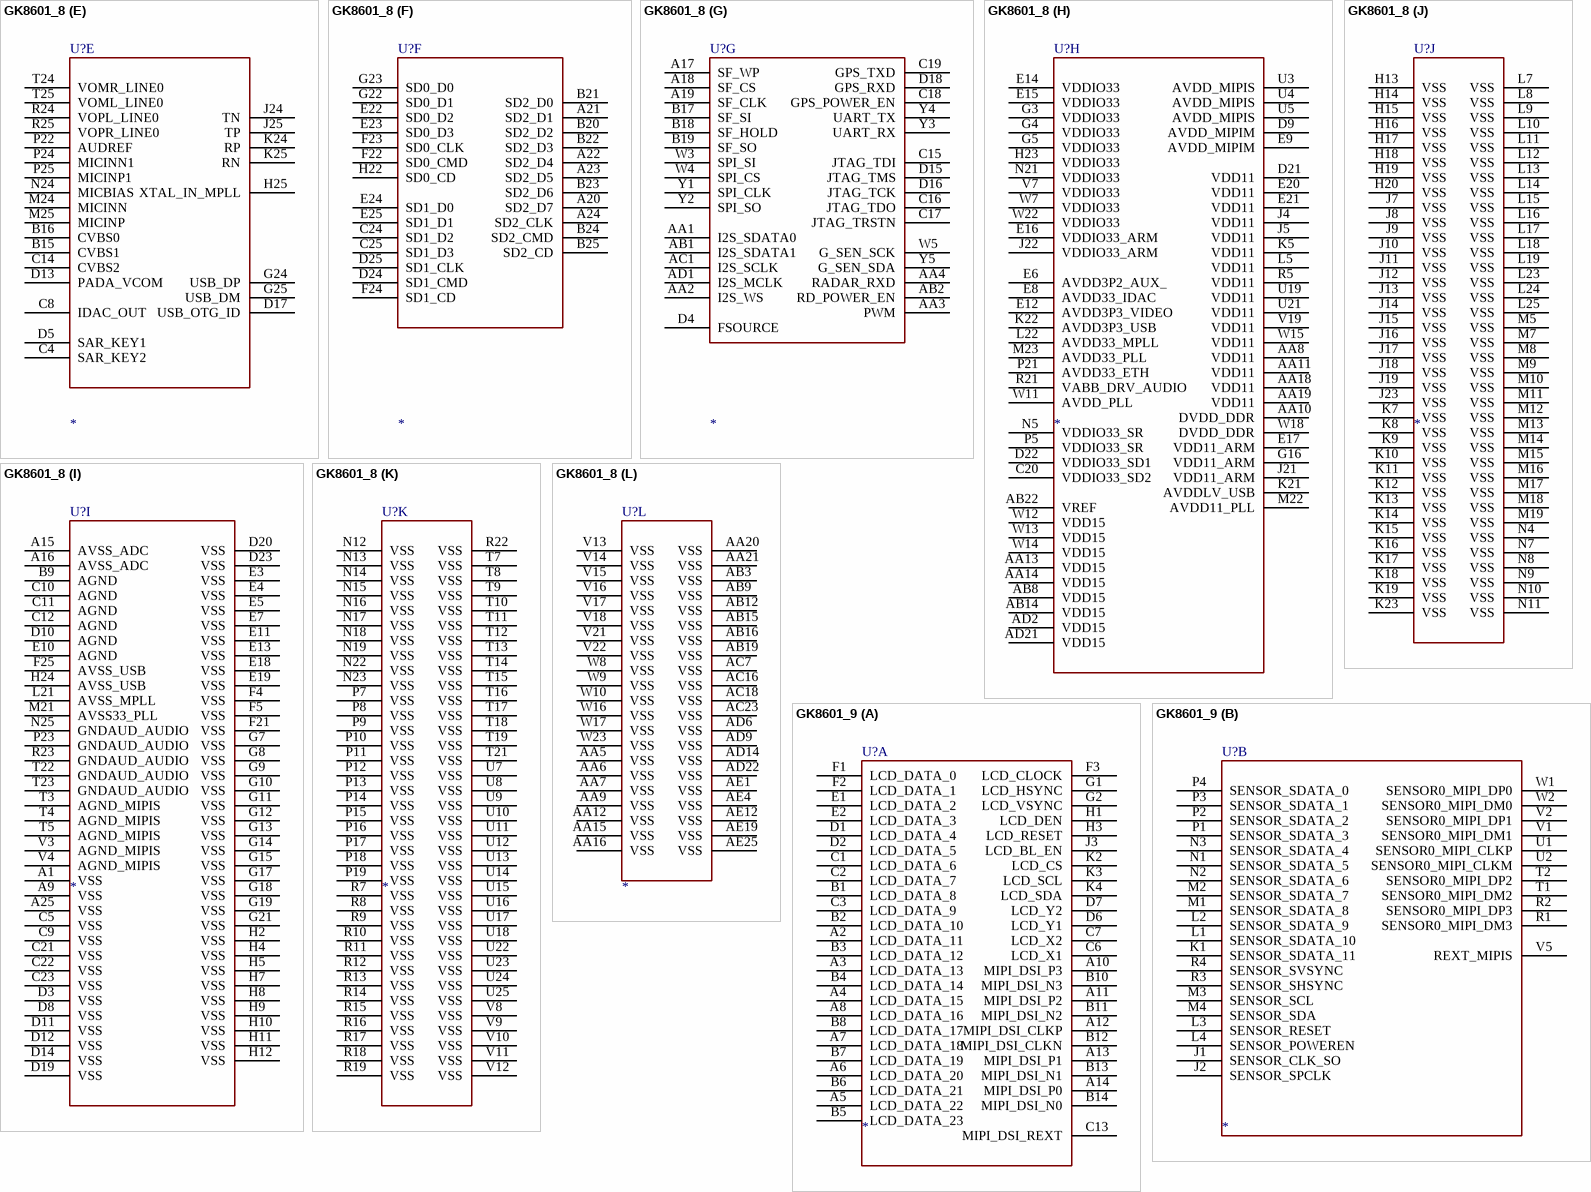
[diagram p14: symbols GK8601_8 to GK8601_9]

## GK8601_8
designator U?
footprint FBGA-569-0.65-17X17
part A pins: A2 LCD_DATA_11, A3 LCD_DATA_13, A4 LCD_DATA_15, A5 LCD_DATA_22, A6 LCD_DATA_20, A7 LCD_DATA_18, A8 LCD_DATA_16, A10 MIPI_DSI_P3, A11 MIPI_DSI_P2, A12 MIPI_DSI_CLKP, A13 MIPI_DSI_P1, A14 MIPI_DSI_P0, B1 LCD_DATA_8, B2 LCD_DATA_10, B3 LCD_DATA_12, B4 LCD_DATA_14, B5 LCD_DATA_23, B6 LCD_DATA_21, B7 LCD_DATA_19, B8 LCD_DATA_17, B10 MIPI_DSI_N3, B11 MIPI_DSI_N2, B12 MIPI_DSI_CLKN, B13 MIPI_DSI_N1, B14 MIPI_DSI_N0, C1 LCD_DATA_6, C2 LCD_DATA_7, C3 LCD_DATA_9, C6 LCD_X1, C7 LCD_X2, C13 MIPI_DSI_REXT, D1 LCD_DATA_4, D2 LCD_DATA_5, D6 LCD_Y1, D7 LCD_Y2, E1 LCD_DATA_2, E2 LCD_DATA_3, F1 LCD_DATA_0, F2 LCD_DATA_1, F3 LCD_CLOCK, G1 LCD_HSYNC, G2 LCD_VSYNC, H1 LCD_DEN, H3 LCD_RESET, J3 LCD_BL_EN, K2 LCD_CS, K3 LCD_SCL, K4 LCD_SDA
part B pins: J1 SENSOR_CLK_SO, J2 SENSOR_SPCLK, K1 SENSOR_SDATA_11, L1 SENSOR_SDATA_10, L2 SENSOR_SDATA_9, L3 SENSOR_RESET, L4 SENSOR_POWEREN, M1 SENSOR_SDATA_8, M2 SENSOR_SDATA_7, M3 SENSOR_SCL, M4 SENSOR_SDA, N1 SENSOR_SDATA_5, N2 SENSOR_SDATA_6, N3 SENSOR_SDATA_4, P1 SENSOR_SDATA_3, P2 SENSOR_SDATA_2, P3 SENSOR_SDATA_1, P4 SENSOR_SDATA_0, R1 SENSOR0_MIPI_DM3, R2 SENSOR0_MIPI_DP3, R3 SENSOR_SHSYNC, R4 SENSOR_SVSYNC, T1 SENSOR0_MIPI_DM2, T2 SENSOR0_MIPI_DP2, U1 SENSOR0_MIPI_CLKP, U2 SENSOR0_MIPI_CLKM, V1 SENSOR0_MIPI_DM1, V2 SENSOR0_MIPI_DP1, V5 REXT_MIPIS, W1 SENSOR0_MIPI_DP0, W2 SENSOR0_MIPI_DM0
part C pins: AA17 CKE, AB4 DQ31, AB5 DQ25, AB6 DQS3#, AB7 DQS3, AB10 A13, AB11 ODT, AB13 BA2, AB17 DQ6, AB18 DQ0, AB20 DQ4, AB21 DM0, AB23 DQ5, AC2 DQ27, AC3 DQ29, AC4 DM3, AC5 DQ24, AC6 DQ28, AC8 DQ30, AC9 DQ26, AC10 A3, AC11 A7, AC12 RAS#, AC13 A0, AC14 A10, AC15 A8, AC17 DQ2, AC19 DQS0, AC20 DQS0#, AC21 DQ1, AC22 DQ3, AC24 DQ7, AC25 RST#, AD3 DQ22, AD4 DQ16, AD5 DQS2, AD7 DQ17, AD8 DQ19, AD10 A5, AD11 A15, AD12 WE#, AD13 CLK, AD15 A12, AD16 A4, AD17 A14, AD18 DM1, AD19 DQ11, AD20 DQ15, AD23 DQS1#, AD24 DQ14, AD25 DQ10, AE2 DQ20, AE3 DQ18, AE5 DQS2#, AE6 DQ23, AE7 DM2, AE8 DQ21, AE9 A9, AE10 A2, AE11 BA0, AE13 CLK#, AE14 CAS#, AE15 BA1, AE16 A1, AE17 A11, AE18 A6, AE20 DQ13, AE21 DQ9, AE22 DQ8, AE23 DQS1, AE24 DQ12
part D pins: AA22 C_CONTORL, AA23 PMU_INT2, AA24 POWER_EN0, AA25 PMU_T_MODE, AB24 V_CONTORL, AB25 PMU_RSTN, V23 VDDIO33_AON, V24 PMU_XOUT, V25 PMU_XIN, W19 VDDIO11_AON, W21 AVDD, W24 PMU_RTC_O, W25 PMU_RTC_I, Y21 VDDIO15_AON, Y22 PMU_INT1, Y23 PMU_INT3, Y24 PMU_INT0, Y25 IR_DATA
part E pins: B15 CVBS1, B16 CVBS0, C4 SAR_KEY2, C8 IDAC_OUT, C14 CVBS2, D5 SAR_KEY1, D13 PADA_VCOM, D17 USB_OTG_ID, G24 USB_DP, G25 USB_DM, H25 XTAL_IN_MPLL, J24 TN, J25 TP, K24 RP, K25 RN, M24 MICINN, M25 MICINP, N24 MICBIAS, P22 AUDREF, P24 MICINN1, P25 MICINP1, R24 VOPL_LINE0, R25 VOPR_LINE0, T24 VOMR_LINE0, T25 VOML_LINE0
part F pins: A20 SD2_D7, A21 SD2_D1, A22 SD2_D4, A23 SD2_D5, A24 SD2_CLK, B20 SD2_D2, B21 SD2_D0, B22 SD2_D3, B23 SD2_D6, B24 SD2_CMD, B25 SD2_CD, C24 SD1_D2, C25 SD1_D3, D24 SD1_CMD, D25 SD1_CLK, E22 SD0_D2, E23 SD0_D3, E24 SD1_D0, E25 SD1_D1, F22 SD0_CMD, F23 SD0_CLK, F24 SD1_CD, G22 SD0_D1, G23 SD0_D0, H22 SD0_CD
part G pins: A17 SF_WP, A18 SF_CS, A19 SF_CLK, AA1 I2S_SDATA0, AA2 I2S_WS, AA3 PWM, AA4 RADAR_RXD, AB1 I2S_SDATA1, AB2 RD_POWER_EN, AC1 I2S_SCLK, AD1 I2S_MCLK, B17 SF_SI, B18 SF_HOLD, B19 SF_SO, C15 JTAG_TDI, C16 JTAG_TDO, C17 JTAG_TRSTN, C18 GPS_POWER_EN, C19 GPS_TXD, D4 FSOURCE, D15 JTAG_TMS, D16 JTAG_TCK, D18 GPS_RXD, W3 SPI_SI, W4 SPI_CS, W5 G_SEN_SCK, Y1 SPI_CLK, Y2 SPI_SO, Y3 UART_RX, Y4 UART_TX, Y5 G_SEN_SDA
part H pins: AA8 VDD11, AA10 DVDD_DDR, AA11 VDD11, AA13 VDD15, AA14 VDD15, AA18 VDD11, AA19 VDD11, AB8 VDD15, AB14 VDD15, AB22 VREF, AD2 VDD15, AD21 VDD15, C20 VDDIO33_SD2, D9 AVDD_MIPIM, D21 VDD11, D22 VDDIO33_SD1, E6 AVDD3P2_AUX_, E8 AVDD33_IDAC, E9 AVDD_MIPIM, E12 AVDD3P3_VIDEO, E14 VDDIO33, E15 VDDIO33, E16 VDDIO33_ARM, E17 VDD11_ARM, E20 VDD11, E21 VDD11, G3 VDDIO33, G4 VDDIO33, G5 VDDIO33, G16 VDD11_ARM, H23 VDDIO33, J4 VDD11, J5 VDD11, J21 VDD11_ARM, J22 VDDIO33_ARM, K5 VDD11, K21 AVDDLV_USB, K22 AVDD3P3_USB, L5 VDD11, L22 AVDD33_MPLL, M22 AVDD11_PLL, M23 AVDD33_PLL, N5 VDDIO33_SR, N21 VDDIO33, P5 VDDIO33_SR, P21 AVDD33_ETH, R5 VDD11, R21 VABB_DRV_AUDIO, U3 AVDD_MIPIS, U4 AVDD_MIPIS, U5 AVDD_MIPIS, U19 VDD11, U21 VDD11, V7 VDDIO33, V19 VDD11, W7 VDDIO33, W11 AVDD_PLL, W12 VDD15, W13 VDD15, W14 VDD15, W15 VDD11, W18 DVDD_DDR, W22 VDDIO33
part I pins: A1 VSS, A9 VSS, A15 AVSS_ADC, A16 AVSS_ADC, A25 VSS, B9 AGND, C5 VSS, C9 VSS, C10 AGND, C11 AGND, C12 AGND, C21 VSS, C22 VSS, C23 VSS, D3 VSS, D8 VSS, D10 AGND, D11 VSS, D12 VSS, D14 VSS, D19 VSS, D20 VSS, D23 VSS, E3 VSS, E4 VSS, E5 VSS, E7 VSS, E10 AGND, E11 VSS, E13 VSS, E18 VSS, E19 VSS, F4 VSS, F5 VSS, F21 VSS, F25 AVSS_USB, G7 VSS, G8 VSS, G9 VSS, G10 VSS, G11 VSS, G12 VSS, G13 VSS, G14 VSS, G15 VSS, G17 VSS, G18 VSS, G19 VSS, G21 VSS, H2 VSS, H4 VSS, H5 VSS, H7 VSS, H8 VSS, H9 VSS, H10 VSS, H11 VSS, H12 VSS, H24 AVSS_USB, L21 AVSS_MPLL, M21 AVSS33_PLL, N25 GNDAUD_AUDIO, P23 GNDAUD_AUDIO, R23 GNDAUD_AUDIO, T3 AGND_MIPIS, T4 AGND_MIPIS, T5 AGND_MIPIS, T22 GNDAUD_AUDIO, T23 GNDAUD_AUDIO, V3 AGND_MIPIS, V4 AGND_MIPIS
part J pins: H13 VSS, H14 VSS, H15 VSS, H16 VSS, H17 VSS, H18 VSS, H19 VSS, H20 VSS, J7 VSS, J8 VSS, J9 VSS, J10 VSS, J11 VSS, J12 VSS, J13 VSS, J14 VSS, J15 VSS, J16 VSS, J17 VSS, J18 VSS, J19 VSS, J23 VSS, K7 VSS, K8 VSS, K9 VSS, K10 VSS, K11 VSS, K12 VSS, K13 VSS, K14 VSS, K15 VSS, K16 VSS, K17 VSS, K18 VSS, K19 VSS, K23 VSS, L7 VSS, L8 VSS, L9 VSS, L10 VSS, L11 VSS, L12 VSS, L13 VSS, L14 VSS, L15 VSS, L16 VSS, L17 VSS, L18 VSS, L19 VSS, L23 VSS, L24 VSS, L25 VSS, M5 VSS, M7 VSS, M8 VSS, M9 VSS, M10 VSS, M11 VSS, M12 VSS, M13 VSS, M14 VSS, M15 VSS, M16 VSS, M17 VSS, M18 VSS, M19 VSS, N4 VSS, N7 VSS, N8 VSS, N9 VSS, N10 VSS, N11 VSS
part K pins: N12 VSS, N13 VSS, N14 VSS, N15 VSS, N16 VSS, N17 VSS, N18 VSS, N19 VSS, N22 VSS, N23 VSS, P7 VSS, P8 VSS, P9 VSS, P10 VSS, P11 VSS, P12 VSS, P13 VSS, P14 VSS, P15 VSS, P16 VSS, P17 VSS, P18 VSS, P19 VSS, R7 VSS, R8 VSS, R9 VSS, R10 VSS, R11 VSS, R12 VSS, R13 VSS, R14 VSS, R15 VSS, R16 VSS, R17 VSS, R18 VSS, R19 VSS, R22 VSS, T7 VSS, T8 VSS, T9 VSS, T10 VSS, T11 VSS, T12 VSS, T13 VSS, T14 VSS, T15 VSS, T16 VSS, T17 VSS, T18 VSS, T19 VSS, T21 VSS, U7 VSS, U8 VSS, U9 VSS, U10 VSS, U11 VSS, U12 VSS, U13 VSS, U14 VSS, U15 VSS, U16 VSS, U17 VSS, U18 VSS, U22 VSS, U23 VSS, U24 VSS, U25 VSS, V8 VSS, V9 VSS, V10 VSS, V11 VSS, V12 VSS
part L pins: AA5 VSS, AA6 VSS, AA7 VSS, AA9 VSS, AA12 VSS, AA15 VSS, AA16 VSS, AA20 VSS, AA21 VSS, AB3 VSS, AB9 VSS, AB12 VSS, AB15 VSS, AB16 VSS, AB19 VSS, AC7 VSS, AC16 VSS, AC18 VSS, AC23 VSS, AD6 VSS, AD9 VSS, AD14 VSS, AD22 VSS, AE1 VSS, AE4 VSS, AE12 VSS, AE19 VSS, AE25 VSS, V13 VSS, V14 VSS, V15 VSS, V16 VSS, V17 VSS, V18 VSS, V21 VSS, V22 VSS, W8 VSS, W9 VSS, W10 VSS, W16 VSS, W17 VSS, W23 VSS

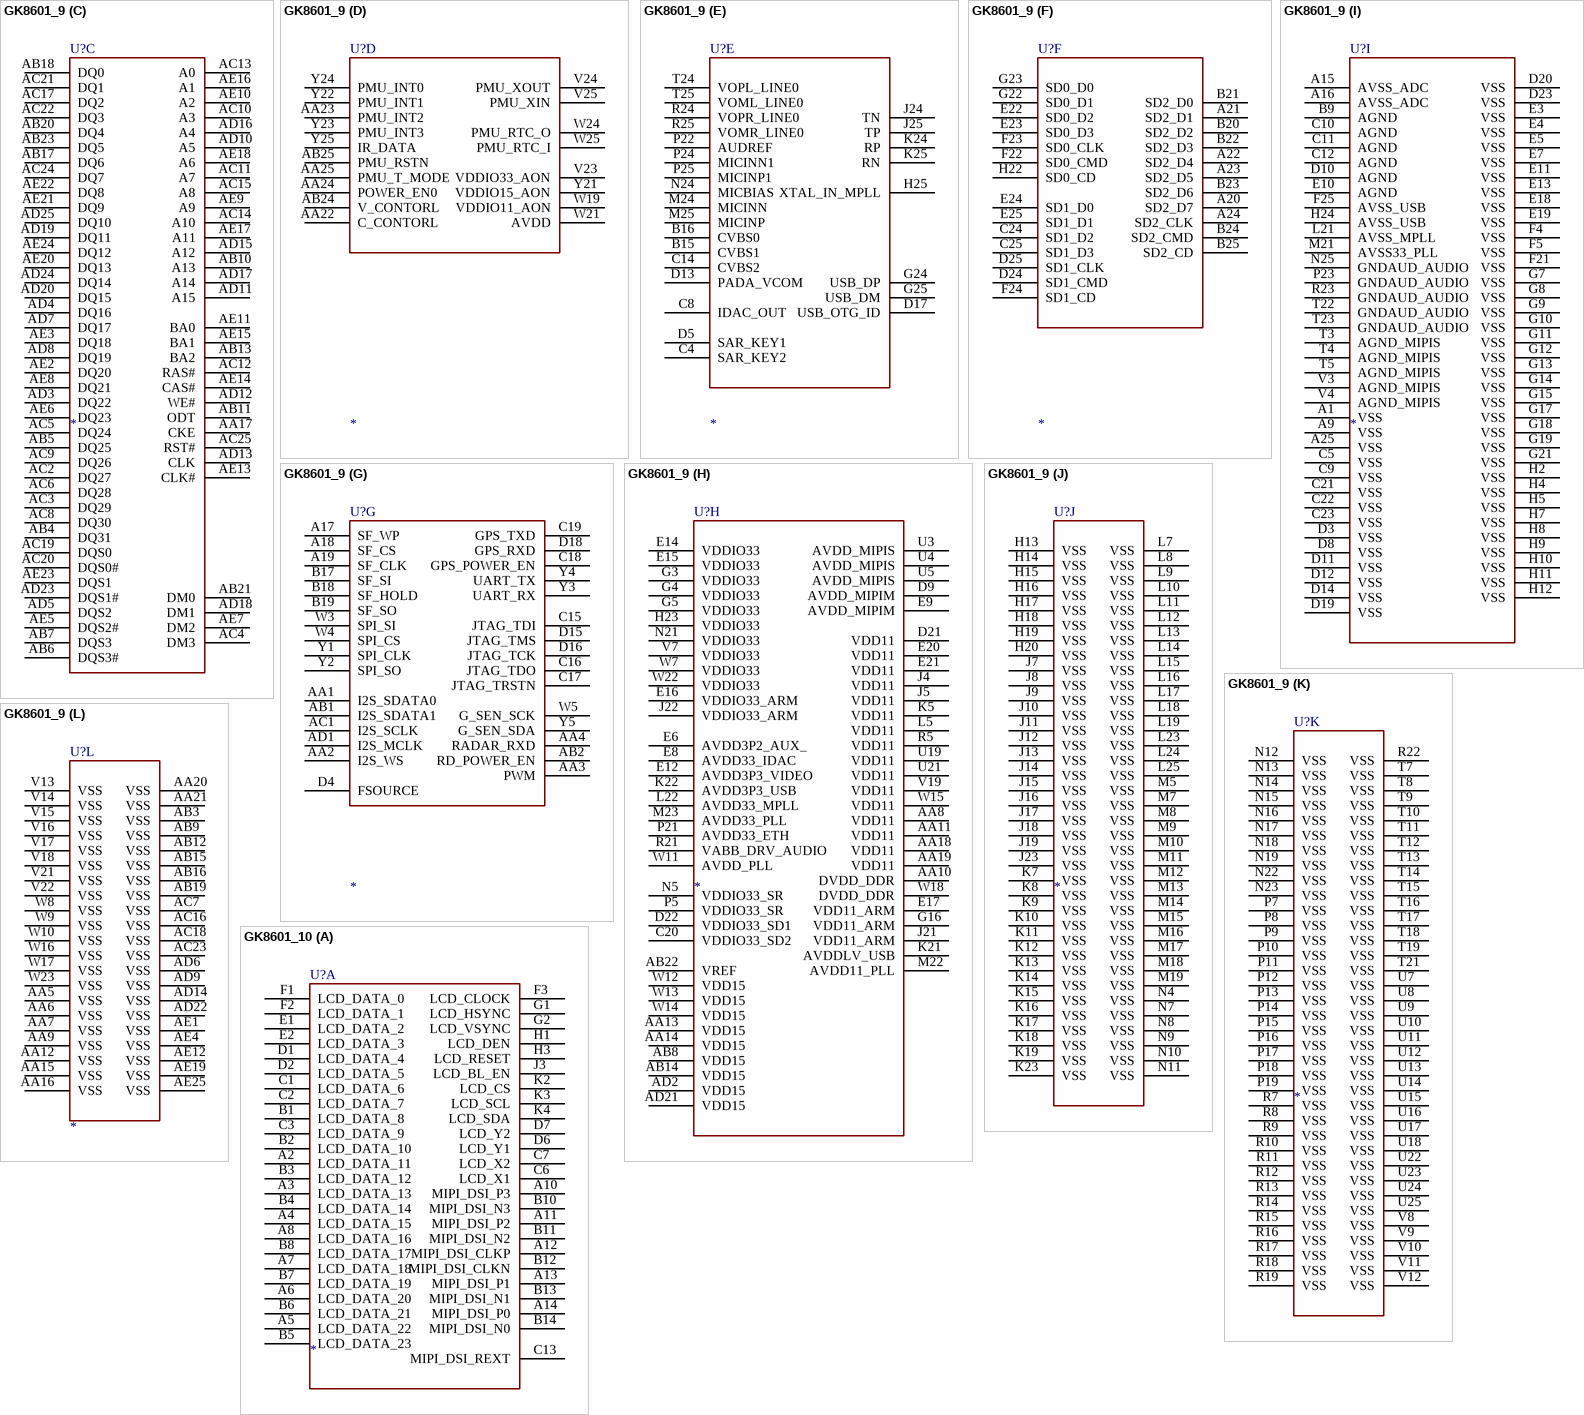
[diagram p15: symbols GK8601_9 to GK8601_10]

## GK8601_9
designator U?
footprint FBGA-569-0.65-17X17
part A pins: A2 LCD_DATA_11, A3 LCD_DATA_13, A4 LCD_DATA_15, A5 LCD_DATA_22, A6 LCD_DATA_20, A7 LCD_DATA_18, A8 LCD_DATA_16, A10 MIPI_DSI_P3, A11 MIPI_DSI_P2, A12 MIPI_DSI_CLKP, A13 MIPI_DSI_P1, A14 MIPI_DSI_P0, B1 LCD_DATA_8, B2 LCD_DATA_10, B3 LCD_DATA_12, B4 LCD_DATA_14, B5 LCD_DATA_23, B6 LCD_DATA_21, B7 LCD_DATA_19, B8 LCD_DATA_17, B10 MIPI_DSI_N3, B11 MIPI_DSI_N2, B12 MIPI_DSI_CLKN, B13 MIPI_DSI_N1, B14 MIPI_DSI_N0, C1 LCD_DATA_6, C2 LCD_DATA_7, C3 LCD_DATA_9, C6 LCD_X1, C7 LCD_X2, C13 MIPI_DSI_REXT, D1 LCD_DATA_4, D2 LCD_DATA_5, D6 LCD_Y1, D7 LCD_Y2, E1 LCD_DATA_2, E2 LCD_DATA_3, F1 LCD_DATA_0, F2 LCD_DATA_1, F3 LCD_CLOCK, G1 LCD_HSYNC, G2 LCD_VSYNC, H1 LCD_DEN, H3 LCD_RESET, J3 LCD_BL_EN, K2 LCD_CS, K3 LCD_SCL, K4 LCD_SDA
part B pins: J1 SENSOR_CLK_SO, J2 SENSOR_SPCLK, K1 SENSOR_SDATA_11, L1 SENSOR_SDATA_10, L2 SENSOR_SDATA_9, L3 SENSOR_RESET, L4 SENSOR_POWEREN, M1 SENSOR_SDATA_8, M2 SENSOR_SDATA_7, M3 SENSOR_SCL, M4 SENSOR_SDA, N1 SENSOR_SDATA_5, N2 SENSOR_SDATA_6, N3 SENSOR_SDATA_4, P1 SENSOR_SDATA_3, P2 SENSOR_SDATA_2, P3 SENSOR_SDATA_1, P4 SENSOR_SDATA_0, R1 SENSOR0_MIPI_DM3, R2 SENSOR0_MIPI_DP3, R3 SENSOR_SHSYNC, R4 SENSOR_SVSYNC, T1 SENSOR0_MIPI_DM2, T2 SENSOR0_MIPI_DP2, U1 SENSOR0_MIPI_CLKP, U2 SENSOR0_MIPI_CLKM, V1 SENSOR0_MIPI_DM1, V2 SENSOR0_MIPI_DP1, V5 REXT_MIPIS, W1 SENSOR0_MIPI_DP0, W2 SENSOR0_MIPI_DM0
part C pins: AA17 CKE, AB4 DQ31, AB5 DQ25, AB6 DQS3#, AB7 DQS3, AB10 A13, AB11 ODT, AB13 BA2, AB17 DQ6, AB18 DQ0, AB20 DQ4, AB21 DM0, AB23 DQ5, AC2 DQ27, AC3 DQ29, AC4 DM3, AC5 DQ24, AC6 DQ28, AC8 DQ30, AC9 DQ26, AC10 A3, AC11 A7, AC12 RAS#, AC13 A0, AC14 A10, AC15 A8, AC17 DQ2, AC19 DQS0, AC20 DQS0#, AC21 DQ1, AC22 DQ3, AC24 DQ7, AC25 RST#, AD3 DQ22, AD4 DQ16, AD5 DQS2, AD7 DQ17, AD8 DQ19, AD10 A5, AD11 A15, AD12 WE#, AD13 CLK, AD15 A12, AD16 A4, AD17 A14, AD18 DM1, AD19 DQ11, AD20 DQ15, AD23 DQS1#, AD24 DQ14, AD25 DQ10, AE2 DQ20, AE3 DQ18, AE5 DQS2#, AE6 DQ23, AE7 DM2, AE8 DQ21, AE9 A9, AE10 A2, AE11 BA0, AE13 CLK#, AE14 CAS#, AE15 BA1, AE16 A1, AE17 A11, AE18 A6, AE20 DQ13, AE21 DQ9, AE22 DQ8, AE23 DQS1, AE24 DQ12
part D pins: AA22 C_CONTORL, AA23 PMU_INT2, AA24 POWER_EN0, AA25 PMU_T_MODE, AB24 V_CONTORL, AB25 PMU_RSTN, V23 VDDIO33_AON, V24 PMU_XOUT, V25 PMU_XIN, W19 VDDIO11_AON, W21 AVDD, W24 PMU_RTC_O, W25 PMU_RTC_I, Y21 VDDIO15_AON, Y22 PMU_INT1, Y23 PMU_INT3, Y24 PMU_INT0, Y25 IR_DATA
part E pins: B15 CVBS1, B16 CVBS0, C4 SAR_KEY2, C8 IDAC_OUT, C14 CVBS2, D5 SAR_KEY1, D13 PADA_VCOM, D17 USB_OTG_ID, G24 USB_DP, G25 USB_DM, H25 XTAL_IN_MPLL, J24 TN, J25 TP, K24 RP, K25 RN, M24 MICINN, M25 MICINP, N24 MICBIAS, P22 AUDREF, P24 MICINN1, P25 MICINP1, R24 VOPR_LINE0, R25 VOMR_LINE0, T24 VOPL_LINE0, T25 VOML_LINE0
part F pins: A20 SD2_D7, A21 SD2_D1, A22 SD2_D4, A23 SD2_D5, A24 SD2_CLK, B20 SD2_D2, B21 SD2_D0, B22 SD2_D3, B23 SD2_D6, B24 SD2_CMD, B25 SD2_CD, C24 SD1_D2, C25 SD1_D3, D24 SD1_CMD, D25 SD1_CLK, E22 SD0_D2, E23 SD0_D3, E24 SD1_D0, E25 SD1_D1, F22 SD0_CMD, F23 SD0_CLK, F24 SD1_CD, G22 SD0_D1, G23 SD0_D0, H22 SD0_CD
part G pins: A17 SF_WP, A18 SF_CS, A19 SF_CLK, AA1 I2S_SDATA0, AA2 I2S_WS, AA3 PWM, AA4 RADAR_RXD, AB1 I2S_SDATA1, AB2 RD_POWER_EN, AC1 I2S_SCLK, AD1 I2S_MCLK, B17 SF_SI, B18 SF_HOLD, B19 SF_SO, C15 JTAG_TDI, C16 JTAG_TDO, C17 JTAG_TRSTN, C18 GPS_POWER_EN, C19 GPS_TXD, D4 FSOURCE, D15 JTAG_TMS, D16 JTAG_TCK, D18 GPS_RXD, W3 SPI_SI, W4 SPI_CS, W5 G_SEN_SCK, Y1 SPI_CLK, Y2 SPI_SO, Y3 UART_RX, Y4 UART_TX, Y5 G_SEN_SDA
part H pins: AA8 VDD11, AA10 DVDD_DDR, AA11 VDD11, AA13 VDD15, AA14 VDD15, AA18 VDD11, AA19 VDD11, AB8 VDD15, AB14 VDD15, AB22 VREF, AD2 VDD15, AD21 VDD15, C20 VDDIO33_SD2, D9 AVDD_MIPIM, D21 VDD11, D22 VDDIO33_SD1, E6 AVDD3P2_AUX_, E8 AVDD33_IDAC, E9 AVDD_MIPIM, E12 AVDD3P3_VIDEO, E14 VDDIO33, E15 VDDIO33, E16 VDDIO33_ARM, E17 VDD11_ARM, E20 VDD11, E21 VDD11, G3 VDDIO33, G4 VDDIO33, G5 VDDIO33, G16 VDD11_ARM, H23 VDDIO33, J4 VDD11, J5 VDD11, J21 VDD11_ARM, J22 VDDIO33_ARM, K5 VDD11, K21 AVDDLV_USB, K22 AVDD3P3_USB, L5 VDD11, L22 AVDD33_MPLL, M22 AVDD11_PLL, M23 AVDD33_PLL, N5 VDDIO33_SR, N21 VDDIO33, P5 VDDIO33_SR, P21 AVDD33_ETH, R5 VDD11, R21 VABB_DRV_AUDIO, U3 AVDD_MIPIS, U4 AVDD_MIPIS, U5 AVDD_MIPIS, U19 VDD11, U21 VDD11, V7 VDDIO33, V19 VDD11, W7 VDDIO33, W11 AVDD_PLL, W12 VDD15, W13 VDD15, W14 VDD15, W15 VDD11, W18 DVDD_DDR, W22 VDDIO33
part I pins: A1 VSS, A9 VSS, A15 AVSS_ADC, A16 AVSS_ADC, A25 VSS, B9 AGND, C5 VSS, C9 VSS, C10 AGND, C11 AGND, C12 AGND, C21 VSS, C22 VSS, C23 VSS, D3 VSS, D8 VSS, D10 AGND, D11 VSS, D12 VSS, D14 VSS, D19 VSS, D20 VSS, D23 VSS, E3 VSS, E4 VSS, E5 VSS, E7 VSS, E10 AGND, E11 VSS, E13 VSS, E18 VSS, E19 VSS, F4 VSS, F5 VSS, F21 VSS, F25 AVSS_USB, G7 VSS, G8 VSS, G9 VSS, G10 VSS, G11 VSS, G12 VSS, G13 VSS, G14 VSS, G15 VSS, G17 VSS, G18 VSS, G19 VSS, G21 VSS, H2 VSS, H4 VSS, H5 VSS, H7 VSS, H8 VSS, H9 VSS, H10 VSS, H11 VSS, H12 VSS, H24 AVSS_USB, L21 AVSS_MPLL, M21 AVSS33_PLL, N25 GNDAUD_AUDIO, P23 GNDAUD_AUDIO, R23 GNDAUD_AUDIO, T3 AGND_MIPIS, T4 AGND_MIPIS, T5 AGND_MIPIS, T22 GNDAUD_AUDIO, T23 GNDAUD_AUDIO, V3 AGND_MIPIS, V4 AGND_MIPIS
part J pins: H13 VSS, H14 VSS, H15 VSS, H16 VSS, H17 VSS, H18 VSS, H19 VSS, H20 VSS, J7 VSS, J8 VSS, J9 VSS, J10 VSS, J11 VSS, J12 VSS, J13 VSS, J14 VSS, J15 VSS, J16 VSS, J17 VSS, J18 VSS, J19 VSS, J23 VSS, K7 VSS, K8 VSS, K9 VSS, K10 VSS, K11 VSS, K12 VSS, K13 VSS, K14 VSS, K15 VSS, K16 VSS, K17 VSS, K18 VSS, K19 VSS, K23 VSS, L7 VSS, L8 VSS, L9 VSS, L10 VSS, L11 VSS, L12 VSS, L13 VSS, L14 VSS, L15 VSS, L16 VSS, L17 VSS, L18 VSS, L19 VSS, L23 VSS, L24 VSS, L25 VSS, M5 VSS, M7 VSS, M8 VSS, M9 VSS, M10 VSS, M11 VSS, M12 VSS, M13 VSS, M14 VSS, M15 VSS, M16 VSS, M17 VSS, M18 VSS, M19 VSS, N4 VSS, N7 VSS, N8 VSS, N9 VSS, N10 VSS, N11 VSS
part K pins: N12 VSS, N13 VSS, N14 VSS, N15 VSS, N16 VSS, N17 VSS, N18 VSS, N19 VSS, N22 VSS, N23 VSS, P7 VSS, P8 VSS, P9 VSS, P10 VSS, P11 VSS, P12 VSS, P13 VSS, P14 VSS, P15 VSS, P16 VSS, P17 VSS, P18 VSS, P19 VSS, R7 VSS, R8 VSS, R9 VSS, R10 VSS, R11 VSS, R12 VSS, R13 VSS, R14 VSS, R15 VSS, R16 VSS, R17 VSS, R18 VSS, R19 VSS, R22 VSS, T7 VSS, T8 VSS, T9 VSS, T10 VSS, T11 VSS, T12 VSS, T13 VSS, T14 VSS, T15 VSS, T16 VSS, T17 VSS, T18 VSS, T19 VSS, T21 VSS, U7 VSS, U8 VSS, U9 VSS, U10 VSS, U11 VSS, U12 VSS, U13 VSS, U14 VSS, U15 VSS, U16 VSS, U17 VSS, U18 VSS, U22 VSS, U23 VSS, U24 VSS, U25 VSS, V8 VSS, V9 VSS, V10 VSS, V11 VSS, V12 VSS
part L pins: AA5 VSS, AA6 VSS, AA7 VSS, AA9 VSS, AA12 VSS, AA15 VSS, AA16 VSS, AA20 VSS, AA21 VSS, AB3 VSS, AB9 VSS, AB12 VSS, AB15 VSS, AB16 VSS, AB19 VSS, AC7 VSS, AC16 VSS, AC18 VSS, AC23 VSS, AD6 VSS, AD9 VSS, AD14 VSS, AD22 VSS, AE1 VSS, AE4 VSS, AE12 VSS, AE19 VSS, AE25 VSS, V13 VSS, V14 VSS, V15 VSS, V16 VSS, V17 VSS, V18 VSS, V21 VSS, V22 VSS, W8 VSS, W9 VSS, W10 VSS, W16 VSS, W17 VSS, W23 VSS

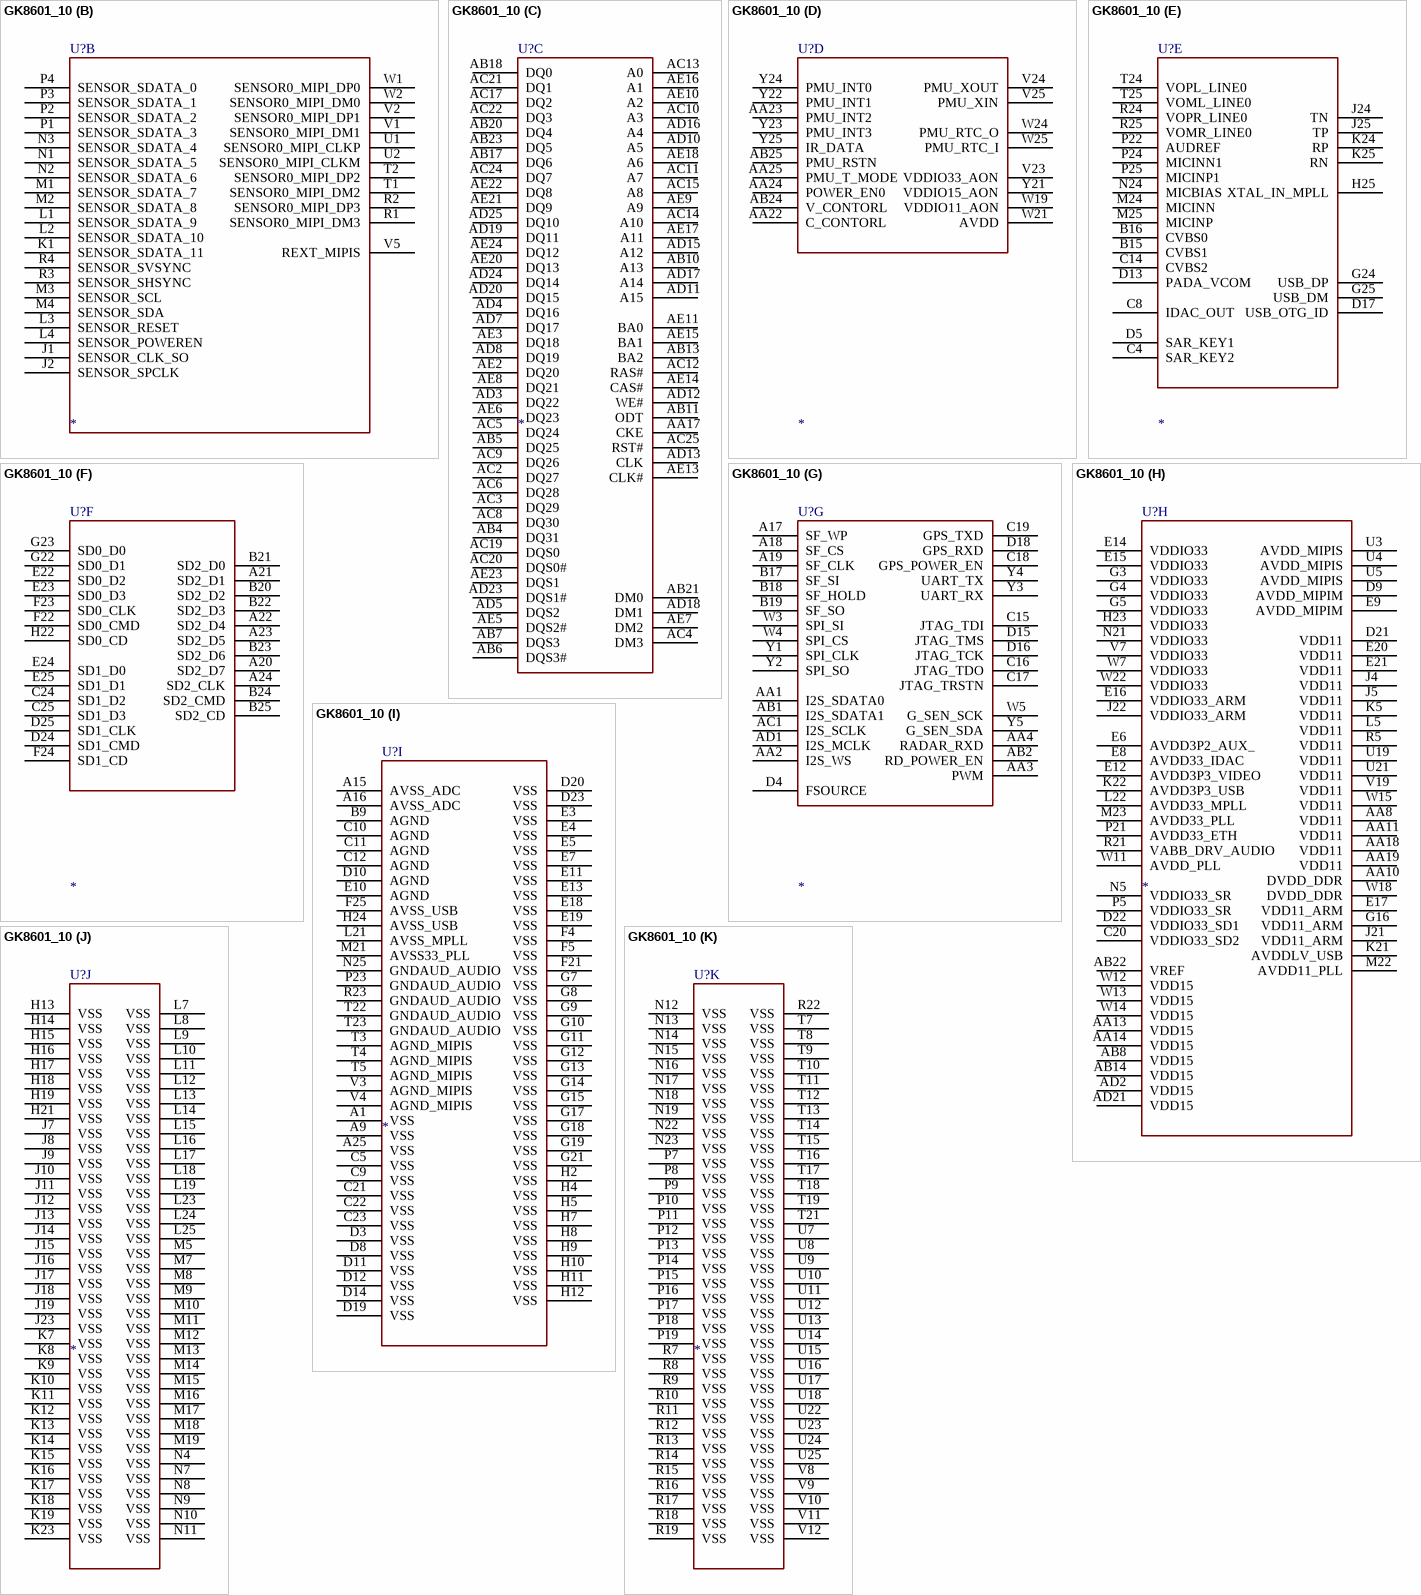
[diagram p16: symbol GK8601_10]

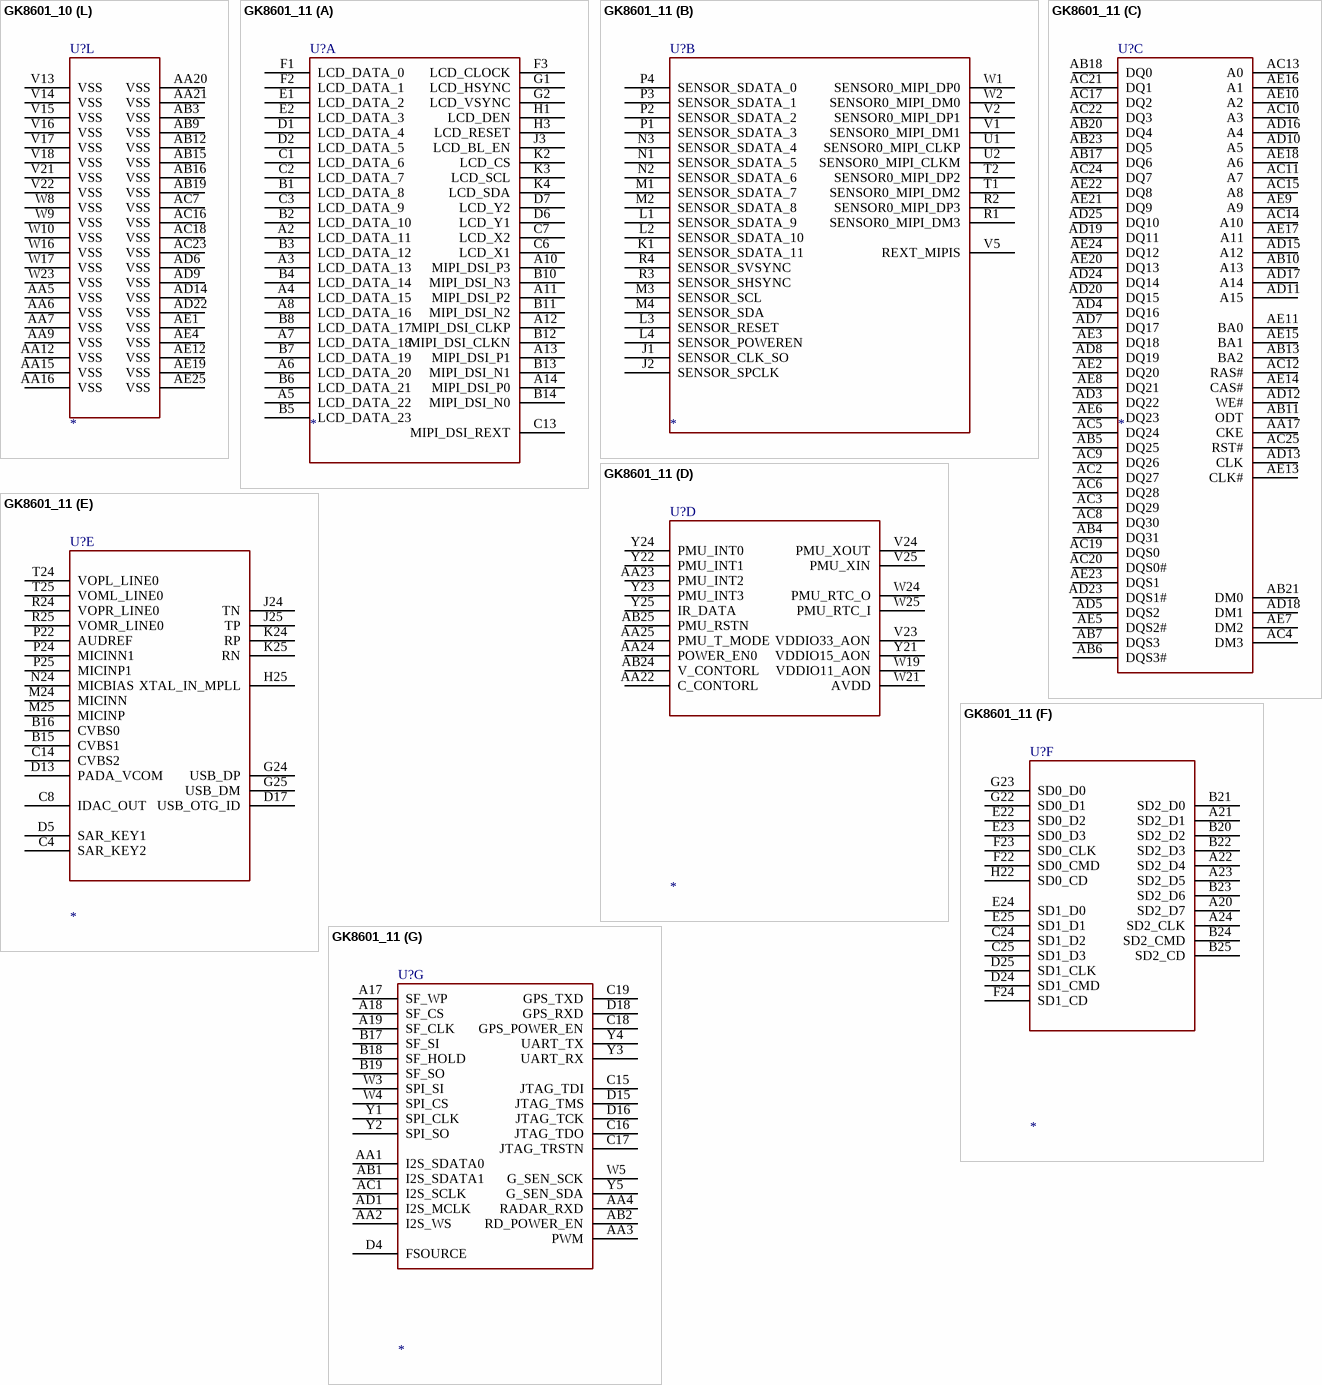
[diagram p17: symbols GK8601_10 to GK8601_11]

## GK8601_10
designator U?
footprint FBGA-569-0.65-17X17
part A pins: A2 LCD_DATA_11, A3 LCD_DATA_13, A4 LCD_DATA_15, A5 LCD_DATA_22, A6 LCD_DATA_20, A7 LCD_DATA_18, A8 LCD_DATA_16, A10 MIPI_DSI_P3, A11 MIPI_DSI_P2, A12 MIPI_DSI_CLKP, A13 MIPI_DSI_P1, A14 MIPI_DSI_P0, B1 LCD_DATA_8, B2 LCD_DATA_10, B3 LCD_DATA_12, B4 LCD_DATA_14, B5 LCD_DATA_23, B6 LCD_DATA_21, B7 LCD_DATA_19, B8 LCD_DATA_17, B10 MIPI_DSI_N3, B11 MIPI_DSI_N2, B12 MIPI_DSI_CLKN, B13 MIPI_DSI_N1, B14 MIPI_DSI_N0, C1 LCD_DATA_6, C2 LCD_DATA_7, C3 LCD_DATA_9, C6 LCD_X1, C7 LCD_X2, C13 MIPI_DSI_REXT, D1 LCD_DATA_4, D2 LCD_DATA_5, D6 LCD_Y1, D7 LCD_Y2, E1 LCD_DATA_2, E2 LCD_DATA_3, F1 LCD_DATA_0, F2 LCD_DATA_1, F3 LCD_CLOCK, G1 LCD_HSYNC, G2 LCD_VSYNC, H1 LCD_DEN, H3 LCD_RESET, J3 LCD_BL_EN, K2 LCD_CS, K3 LCD_SCL, K4 LCD_SDA
part B pins: J1 SENSOR_CLK_SO, J2 SENSOR_SPCLK, K1 SENSOR_SDATA_11, L1 SENSOR_SDATA_9, L2 SENSOR_SDATA_10, L3 SENSOR_RESET, L4 SENSOR_POWEREN, M1 SENSOR_SDATA_7, M2 SENSOR_SDATA_8, M3 SENSOR_SCL, M4 SENSOR_SDA, N1 SENSOR_SDATA_5, N2 SENSOR_SDATA_6, N3 SENSOR_SDATA_4, P1 SENSOR_SDATA_3, P2 SENSOR_SDATA_2, P3 SENSOR_SDATA_1, P4 SENSOR_SDATA_0, R1 SENSOR0_MIPI_DM3, R2 SENSOR0_MIPI_DP3, R3 SENSOR_SHSYNC, R4 SENSOR_SVSYNC, T1 SENSOR0_MIPI_DM2, T2 SENSOR0_MIPI_DP2, U1 SENSOR0_MIPI_CLKP, U2 SENSOR0_MIPI_CLKM, V1 SENSOR0_MIPI_DM1, V2 SENSOR0_MIPI_DP1, V5 REXT_MIPIS, W1 SENSOR0_MIPI_DP0, W2 SENSOR0_MIPI_DM0
part C pins: AA17 CKE, AB4 DQ31, AB5 DQ25, AB6 DQS3#, AB7 DQS3, AB10 A13, AB11 ODT, AB13 BA2, AB17 DQ6, AB18 DQ0, AB20 DQ4, AB21 DM0, AB23 DQ5, AC2 DQ27, AC3 DQ29, AC4 DM3, AC5 DQ24, AC6 DQ28, AC8 DQ30, AC9 DQ26, AC10 A3, AC11 A7, AC12 RAS#, AC13 A0, AC14 A10, AC15 A8, AC17 DQ2, AC19 DQS0, AC20 DQS0#, AC21 DQ1, AC22 DQ3, AC24 DQ7, AC25 RST#, AD3 DQ22, AD4 DQ16, AD5 DQS2, AD7 DQ17, AD8 DQ19, AD10 A5, AD11 A15, AD12 WE#, AD13 CLK, AD15 A12, AD16 A4, AD17 A14, AD18 DM1, AD19 DQ11, AD20 DQ15, AD23 DQS1#, AD24 DQ14, AD25 DQ10, AE2 DQ20, AE3 DQ18, AE5 DQS2#, AE6 DQ23, AE7 DM2, AE8 DQ21, AE9 A9, AE10 A2, AE11 BA0, AE13 CLK#, AE14 CAS#, AE15 BA1, AE16 A1, AE17 A11, AE18 A6, AE20 DQ13, AE21 DQ9, AE22 DQ8, AE23 DQS1, AE24 DQ12
part D pins: AA22 C_CONTORL, AA23 PMU_INT2, AA24 POWER_EN0, AA25 PMU_T_MODE, AB24 V_CONTORL, AB25 PMU_RSTN, V23 VDDIO33_AON, V24 PMU_XOUT, V25 PMU_XIN, W19 VDDIO11_AON, W21 AVDD, W24 PMU_RTC_O, W25 PMU_RTC_I, Y21 VDDIO15_AON, Y22 PMU_INT1, Y23 PMU_INT3, Y24 PMU_INT0, Y25 IR_DATA
part E pins: B15 CVBS1, B16 CVBS0, C4 SAR_KEY2, C8 IDAC_OUT, C14 CVBS2, D5 SAR_KEY1, D13 PADA_VCOM, D17 USB_OTG_ID, G24 USB_DP, G25 USB_DM, H25 XTAL_IN_MPLL, J24 TN, J25 TP, K24 RP, K25 RN, M24 MICINN, M25 MICINP, N24 MICBIAS, P22 AUDREF, P24 MICINN1, P25 MICINP1, R24 VOPR_LINE0, R25 VOMR_LINE0, T24 VOPL_LINE0, T25 VOML_LINE0
part F pins: A20 SD2_D7, A21 SD2_D1, A22 SD2_D4, A23 SD2_D5, A24 SD2_CLK, B20 SD2_D2, B21 SD2_D0, B22 SD2_D3, B23 SD2_D6, B24 SD2_CMD, B25 SD2_CD, C24 SD1_D2, C25 SD1_D3, D24 SD1_CMD, D25 SD1_CLK, E22 SD0_D2, E23 SD0_D3, E24 SD1_D0, E25 SD1_D1, F22 SD0_CMD, F23 SD0_CLK, F24 SD1_CD, G22 SD0_D1, G23 SD0_D0, H22 SD0_CD
part G pins: A17 SF_WP, A18 SF_CS, A19 SF_CLK, AA1 I2S_SDATA0, AA2 I2S_WS, AA3 PWM, AA4 RADAR_RXD, AB1 I2S_SDATA1, AB2 RD_POWER_EN, AC1 I2S_SCLK, AD1 I2S_MCLK, B17 SF_SI, B18 SF_HOLD, B19 SF_SO, C15 JTAG_TDI, C16 JTAG_TDO, C17 JTAG_TRSTN, C18 GPS_POWER_EN, C19 GPS_TXD, D4 FSOURCE, D15 JTAG_TMS, D16 JTAG_TCK, D18 GPS_RXD, W3 SPI_SI, W4 SPI_CS, W5 G_SEN_SCK, Y1 SPI_CLK, Y2 SPI_SO, Y3 UART_RX, Y4 UART_TX, Y5 G_SEN_SDA
part H pins: AA8 VDD11, AA10 DVDD_DDR, AA11 VDD11, AA13 VDD15, AA14 VDD15, AA18 VDD11, AA19 VDD11, AB8 VDD15, AB14 VDD15, AB22 VREF, AD2 VDD15, AD21 VDD15, C20 VDDIO33_SD2, D9 AVDD_MIPIM, D21 VDD11, D22 VDDIO33_SD1, E6 AVDD3P2_AUX_, E8 AVDD33_IDAC, E9 AVDD_MIPIM, E12 AVDD3P3_VIDEO, E14 VDDIO33, E15 VDDIO33, E16 VDDIO33_ARM, E17 VDD11_ARM, E20 VDD11, E21 VDD11, G3 VDDIO33, G4 VDDIO33, G5 VDDIO33, G16 VDD11_ARM, H23 VDDIO33, J4 VDD11, J5 VDD11, J21 VDD11_ARM, J22 VDDIO33_ARM, K5 VDD11, K21 AVDDLV_USB, K22 AVDD3P3_USB, L5 VDD11, L22 AVDD33_MPLL, M22 AVDD11_PLL, M23 AVDD33_PLL, N5 VDDIO33_SR, N21 VDDIO33, P5 VDDIO33_SR, P21 AVDD33_ETH, R5 VDD11, R21 VABB_DRV_AUDIO, U3 AVDD_MIPIS, U4 AVDD_MIPIS, U5 AVDD_MIPIS, U19 VDD11, U21 VDD11, V7 VDDIO33, V19 VDD11, W7 VDDIO33, W11 AVDD_PLL, W12 VDD15, W13 VDD15, W14 VDD15, W15 VDD11, W18 DVDD_DDR, W22 VDDIO33
part I pins: A1 VSS, A9 VSS, A15 AVSS_ADC, A16 AVSS_ADC, A25 VSS, B9 AGND, C5 VSS, C9 VSS, C10 AGND, C11 AGND, C12 AGND, C21 VSS, C22 VSS, C23 VSS, D3 VSS, D8 VSS, D10 AGND, D11 VSS, D12 VSS, D14 VSS, D19 VSS, D20 VSS, D23 VSS, E3 VSS, E4 VSS, E5 VSS, E7 VSS, E10 AGND, E11 VSS, E13 VSS, E18 VSS, E19 VSS, F4 VSS, F5 VSS, F21 VSS, F25 AVSS_USB, G7 VSS, G8 VSS, G9 VSS, G10 VSS, G11 VSS, G12 VSS, G13 VSS, G14 VSS, G15 VSS, G17 VSS, G18 VSS, G19 VSS, G21 VSS, H2 VSS, H4 VSS, H5 VSS, H7 VSS, H8 VSS, H9 VSS, H10 VSS, H11 VSS, H12 VSS, H24 AVSS_USB, L21 AVSS_MPLL, M21 AVSS33_PLL, N25 GNDAUD_AUDIO, P23 GNDAUD_AUDIO, R23 GNDAUD_AUDIO, T3 AGND_MIPIS, T4 AGND_MIPIS, T5 AGND_MIPIS, T22 GNDAUD_AUDIO, T23 GNDAUD_AUDIO, V3 AGND_MIPIS, V4 AGND_MIPIS
part J pins: H13 VSS, H14 VSS, H15 VSS, H16 VSS, H17 VSS, H18 VSS, H19 VSS, H21 VSS, J7 VSS, J8 VSS, J9 VSS, J10 VSS, J11 VSS, J12 VSS, J13 VSS, J14 VSS, J15 VSS, J16 VSS, J17 VSS, J18 VSS, J19 VSS, J23 VSS, K7 VSS, K8 VSS, K9 VSS, K10 VSS, K11 VSS, K12 VSS, K13 VSS, K14 VSS, K15 VSS, K16 VSS, K17 VSS, K18 VSS, K19 VSS, K23 VSS, L7 VSS, L8 VSS, L9 VSS, L10 VSS, L11 VSS, L12 VSS, L13 VSS, L14 VSS, L15 VSS, L16 VSS, L17 VSS, L18 VSS, L19 VSS, L23 VSS, L24 VSS, L25 VSS, M5 VSS, M7 VSS, M8 VSS, M9 VSS, M10 VSS, M11 VSS, M12 VSS, M13 VSS, M14 VSS, M15 VSS, M16 VSS, M17 VSS, M18 VSS, M19 VSS, N4 VSS, N7 VSS, N8 VSS, N9 VSS, N10 VSS, N11 VSS
part K pins: N12 VSS, N13 VSS, N14 VSS, N15 VSS, N16 VSS, N17 VSS, N18 VSS, N19 VSS, N22 VSS, N23 VSS, P7 VSS, P8 VSS, P9 VSS, P10 VSS, P11 VSS, P12 VSS, P13 VSS, P14 VSS, P15 VSS, P16 VSS, P17 VSS, P18 VSS, P19 VSS, R7 VSS, R8 VSS, R9 VSS, R10 VSS, R11 VSS, R12 VSS, R13 VSS, R14 VSS, R15 VSS, R16 VSS, R17 VSS, R18 VSS, R19 VSS, R22 VSS, T7 VSS, T8 VSS, T9 VSS, T10 VSS, T11 VSS, T12 VSS, T13 VSS, T14 VSS, T15 VSS, T16 VSS, T17 VSS, T18 VSS, T19 VSS, T21 VSS, U7 VSS, U8 VSS, U9 VSS, U10 VSS, U11 VSS, U12 VSS, U13 VSS, U14 VSS, U15 VSS, U16 VSS, U17 VSS, U18 VSS, U22 VSS, U23 VSS, U24 VSS, U25 VSS, V8 VSS, V9 VSS, V10 VSS, V11 VSS, V12 VSS
part L pins: AA5 VSS, AA6 VSS, AA7 VSS, AA9 VSS, AA12 VSS, AA15 VSS, AA16 VSS, AA20 VSS, AA21 VSS, AB3 VSS, AB9 VSS, AB12 VSS, AB15 VSS, AB16 VSS, AB19 VSS, AC7 VSS, AC16 VSS, AC18 VSS, AC23 VSS, AD6 VSS, AD9 VSS, AD14 VSS, AD22 VSS, AE1 VSS, AE4 VSS, AE12 VSS, AE19 VSS, AE25 VSS, V13 VSS, V14 VSS, V15 VSS, V16 VSS, V17 VSS, V18 VSS, V21 VSS, V22 VSS, W8 VSS, W9 VSS, W10 VSS, W16 VSS, W17 VSS, W23 VSS

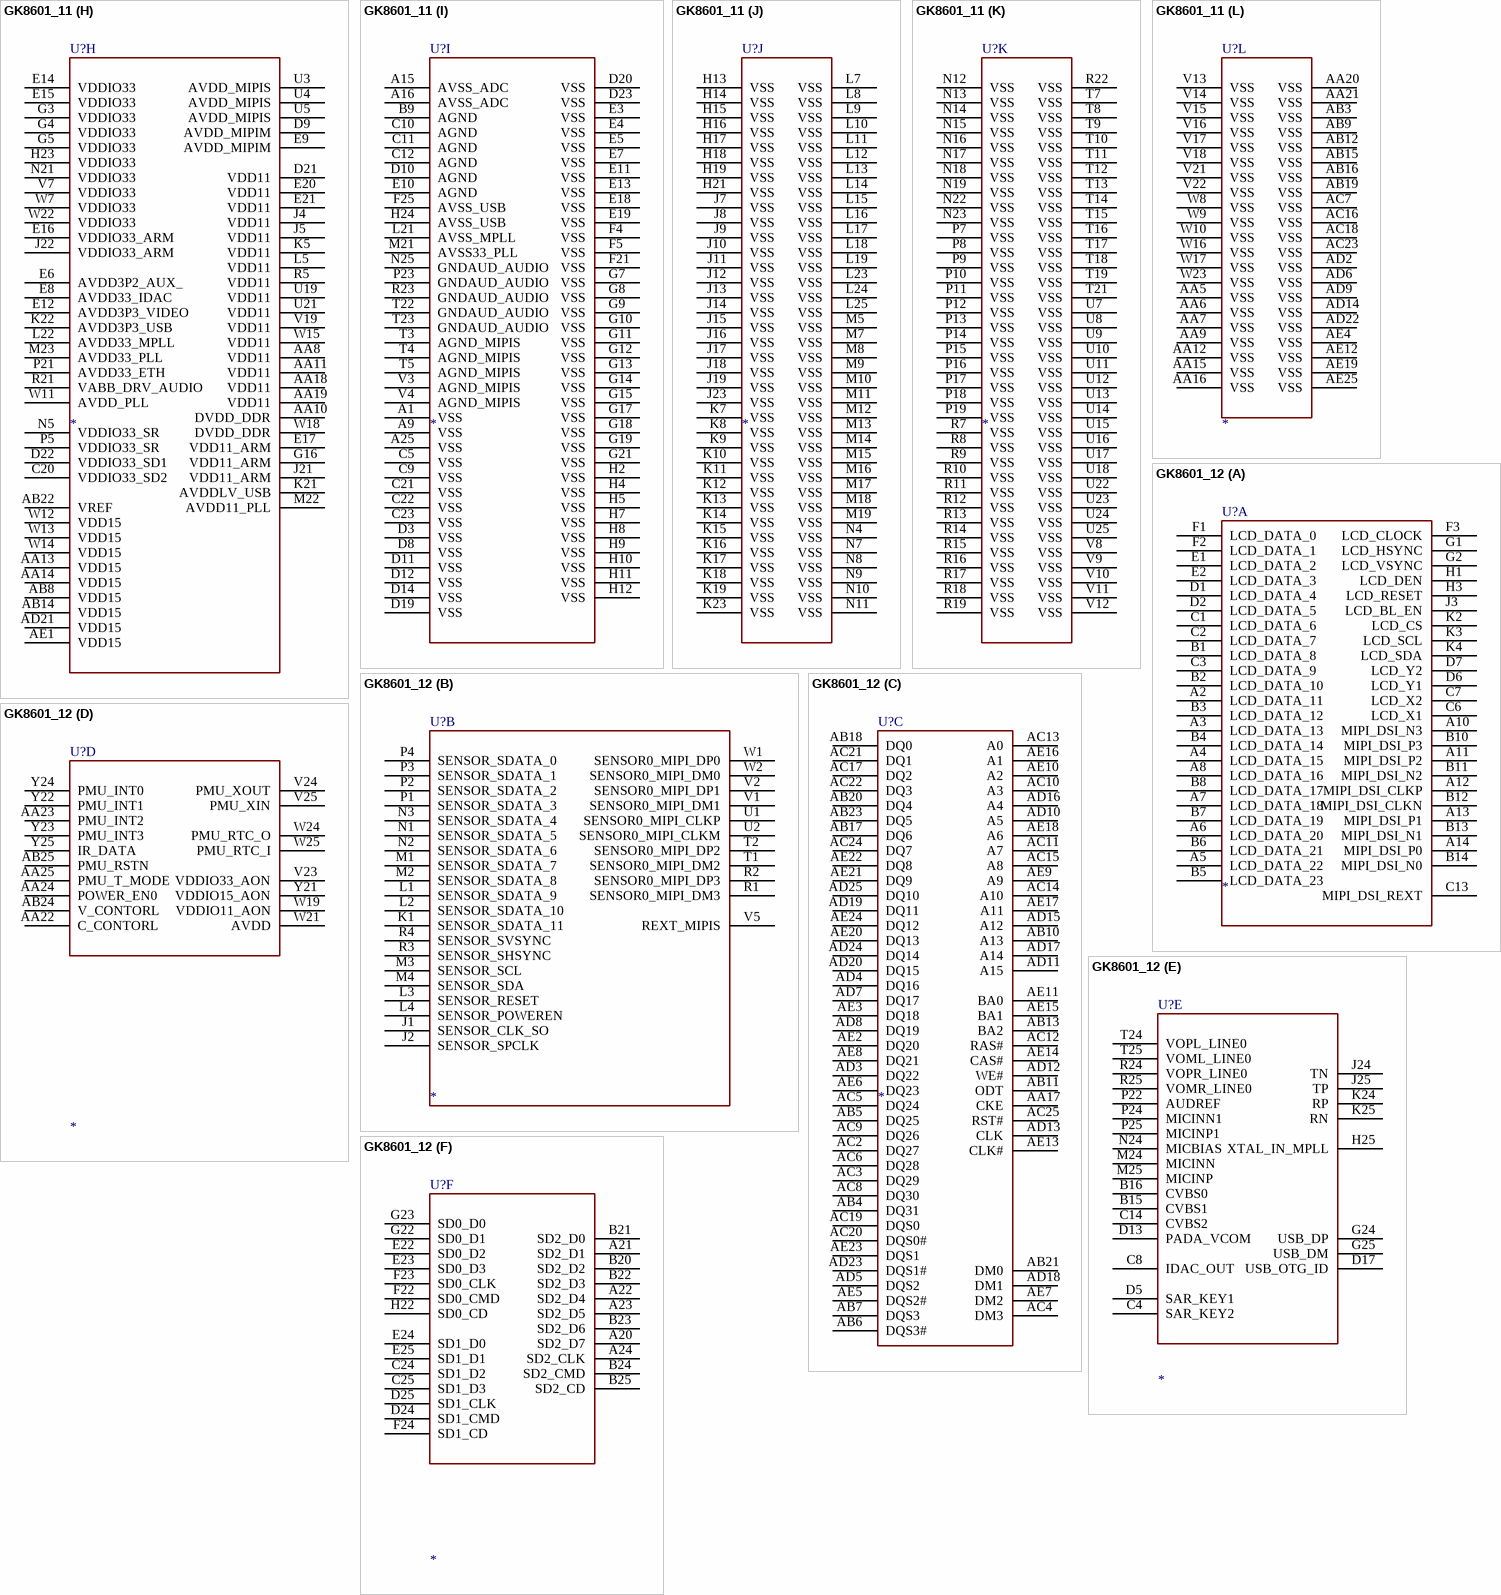
[diagram p18: symbols GK8601_11 to GK8601_12]

## GK8601_11
designator U?
footprint FBGA-569-0.65-17X17
part A pins: A2 LCD_DATA_11, A3 LCD_DATA_13, A4 LCD_DATA_15, A5 LCD_DATA_22, A6 LCD_DATA_20, A7 LCD_DATA_18, A8 LCD_DATA_16, A10 MIPI_DSI_P3, A11 MIPI_DSI_P2, A12 MIPI_DSI_CLKP, A13 MIPI_DSI_P1, A14 MIPI_DSI_P0, B1 LCD_DATA_8, B2 LCD_DATA_10, B3 LCD_DATA_12, B4 LCD_DATA_14, B5 LCD_DATA_23, B6 LCD_DATA_21, B7 LCD_DATA_19, B8 LCD_DATA_17, B10 MIPI_DSI_N3, B11 MIPI_DSI_N2, B12 MIPI_DSI_CLKN, B13 MIPI_DSI_N1, B14 MIPI_DSI_N0, C1 LCD_DATA_6, C2 LCD_DATA_7, C3 LCD_DATA_9, C6 LCD_X1, C7 LCD_X2, C13 MIPI_DSI_REXT, D1 LCD_DATA_4, D2 LCD_DATA_5, D6 LCD_Y1, D7 LCD_Y2, E1 LCD_DATA_2, E2 LCD_DATA_3, F1 LCD_DATA_0, F2 LCD_DATA_1, F3 LCD_CLOCK, G1 LCD_HSYNC, G2 LCD_VSYNC, H1 LCD_DEN, H3 LCD_RESET, J3 LCD_BL_EN, K2 LCD_CS, K3 LCD_SCL, K4 LCD_SDA
part B pins: J1 SENSOR_CLK_SO, J2 SENSOR_SPCLK, K1 SENSOR_SDATA_11, L1 SENSOR_SDATA_9, L2 SENSOR_SDATA_10, L3 SENSOR_RESET, L4 SENSOR_POWEREN, M1 SENSOR_SDATA_7, M2 SENSOR_SDATA_8, M3 SENSOR_SCL, M4 SENSOR_SDA, N1 SENSOR_SDATA_5, N2 SENSOR_SDATA_6, N3 SENSOR_SDATA_4, P1 SENSOR_SDATA_3, P2 SENSOR_SDATA_2, P3 SENSOR_SDATA_1, P4 SENSOR_SDATA_0, R1 SENSOR0_MIPI_DM3, R2 SENSOR0_MIPI_DP3, R3 SENSOR_SHSYNC, R4 SENSOR_SVSYNC, T1 SENSOR0_MIPI_DM2, T2 SENSOR0_MIPI_DP2, U1 SENSOR0_MIPI_CLKP, U2 SENSOR0_MIPI_CLKM, V1 SENSOR0_MIPI_DM1, V2 SENSOR0_MIPI_DP1, V5 REXT_MIPIS, W1 SENSOR0_MIPI_DP0, W2 SENSOR0_MIPI_DM0
part C pins: AA17 CKE, AB4 DQ31, AB5 DQ25, AB6 DQS3#, AB7 DQS3, AB10 A13, AB11 ODT, AB13 BA2, AB17 DQ6, AB18 DQ0, AB20 DQ4, AB21 DM0, AB23 DQ5, AC2 DQ27, AC3 DQ29, AC4 DM3, AC5 DQ24, AC6 DQ28, AC8 DQ30, AC9 DQ26, AC10 A3, AC11 A7, AC12 RAS#, AC13 A0, AC14 A10, AC15 A8, AC17 DQ2, AC19 DQS0, AC20 DQS0#, AC21 DQ1, AC22 DQ3, AC24 DQ7, AC25 RST#, AD3 DQ22, AD4 DQ16, AD5 DQS2, AD7 DQ17, AD8 DQ19, AD10 A5, AD11 A15, AD12 WE#, AD13 CLK, AD15 A12, AD16 A4, AD17 A14, AD18 DM1, AD19 DQ11, AD20 DQ15, AD23 DQS1#, AD24 DQ14, AD25 DQ10, AE2 DQ20, AE3 DQ18, AE5 DQS2#, AE6 DQ23, AE7 DM2, AE8 DQ21, AE9 A9, AE10 A2, AE11 BA0, AE13 CLK#, AE14 CAS#, AE15 BA1, AE16 A1, AE17 A11, AE18 A6, AE20 DQ13, AE21 DQ9, AE22 DQ8, AE23 DQS1, AE24 DQ12
part D pins: AA22 C_CONTORL, AA23 PMU_INT2, AA24 POWER_EN0, AA25 PMU_T_MODE, AB24 V_CONTORL, AB25 PMU_RSTN, V23 VDDIO33_AON, V24 PMU_XOUT, V25 PMU_XIN, W19 VDDIO11_AON, W21 AVDD, W24 PMU_RTC_O, W25 PMU_RTC_I, Y21 VDDIO15_AON, Y22 PMU_INT1, Y23 PMU_INT3, Y24 PMU_INT0, Y25 IR_DATA
part E pins: B15 CVBS1, B16 CVBS0, C4 SAR_KEY2, C8 IDAC_OUT, C14 CVBS2, D5 SAR_KEY1, D13 PADA_VCOM, D17 USB_OTG_ID, G24 USB_DP, G25 USB_DM, H25 XTAL_IN_MPLL, J24 TN, J25 TP, K24 RP, K25 RN, M24 MICINN, M25 MICINP, N24 MICBIAS, P22 AUDREF, P24 MICINN1, P25 MICINP1, R24 VOPR_LINE0, R25 VOMR_LINE0, T24 VOPL_LINE0, T25 VOML_LINE0
part F pins: A20 SD2_D7, A21 SD2_D1, A22 SD2_D4, A23 SD2_D5, A24 SD2_CLK, B20 SD2_D2, B21 SD2_D0, B22 SD2_D3, B23 SD2_D6, B24 SD2_CMD, B25 SD2_CD, C24 SD1_D2, C25 SD1_D3, D24 SD1_CMD, D25 SD1_CLK, E22 SD0_D2, E23 SD0_D3, E24 SD1_D0, E25 SD1_D1, F22 SD0_CMD, F23 SD0_CLK, F24 SD1_CD, G22 SD0_D1, G23 SD0_D0, H22 SD0_CD
part G pins: A17 SF_WP, A18 SF_CS, A19 SF_CLK, AA1 I2S_SDATA0, AA2 I2S_WS, AA3 PWM, AA4 RADAR_RXD, AB1 I2S_SDATA1, AB2 RD_POWER_EN, AC1 I2S_SCLK, AD1 I2S_MCLK, B17 SF_SI, B18 SF_HOLD, B19 SF_SO, C15 JTAG_TDI, C16 JTAG_TDO, C17 JTAG_TRSTN, C18 GPS_POWER_EN, C19 GPS_TXD, D4 FSOURCE, D15 JTAG_TMS, D16 JTAG_TCK, D18 GPS_RXD, W3 SPI_SI, W4 SPI_CS, W5 G_SEN_SCK, Y1 SPI_CLK, Y2 SPI_SO, Y3 UART_RX, Y4 UART_TX, Y5 G_SEN_SDA
part H pins: AA8 VDD11, AA10 DVDD_DDR, AA11 VDD11, AA13 VDD15, AA14 VDD15, AA18 VDD11, AA19 VDD11, AB8 VDD15, AB14 VDD15, AB22 VREF, AD21 VDD15, AE1 VDD15, C20 VDDIO33_SD2, D9 AVDD_MIPIM, D21 VDD11, D22 VDDIO33_SD1, E6 AVDD3P2_AUX_, E8 AVDD33_IDAC, E9 AVDD_MIPIM, E12 AVDD3P3_VIDEO, E14 VDDIO33, E15 VDDIO33, E16 VDDIO33_ARM, E17 VDD11_ARM, E20 VDD11, E21 VDD11, G3 VDDIO33, G4 VDDIO33, G5 VDDIO33, G16 VDD11_ARM, H23 VDDIO33, J4 VDD11, J5 VDD11, J21 VDD11_ARM, J22 VDDIO33_ARM, K5 VDD11, K21 AVDDLV_USB, K22 AVDD3P3_USB, L5 VDD11, L22 AVDD33_MPLL, M22 AVDD11_PLL, M23 AVDD33_PLL, N5 VDDIO33_SR, N21 VDDIO33, P5 VDDIO33_SR, P21 AVDD33_ETH, R5 VDD11, R21 VABB_DRV_AUDIO, U3 AVDD_MIPIS, U4 AVDD_MIPIS, U5 AVDD_MIPIS, U19 VDD11, U21 VDD11, V7 VDDIO33, V19 VDD11, W7 VDDIO33, W11 AVDD_PLL, W12 VDD15, W13 VDD15, W14 VDD15, W15 VDD11, W18 DVDD_DDR, W22 VDDIO33
part I pins: A1 VSS, A9 VSS, A15 AVSS_ADC, A16 AVSS_ADC, A25 VSS, B9 AGND, C5 VSS, C9 VSS, C10 AGND, C11 AGND, C12 AGND, C21 VSS, C22 VSS, C23 VSS, D3 VSS, D8 VSS, D10 AGND, D11 VSS, D12 VSS, D14 VSS, D19 VSS, D20 VSS, D23 VSS, E3 VSS, E4 VSS, E5 VSS, E7 VSS, E10 AGND, E11 VSS, E13 VSS, E18 VSS, E19 VSS, F4 VSS, F5 VSS, F21 VSS, F25 AVSS_USB, G7 VSS, G8 VSS, G9 VSS, G10 VSS, G11 VSS, G12 VSS, G13 VSS, G14 VSS, G15 VSS, G17 VSS, G18 VSS, G19 VSS, G21 VSS, H2 VSS, H4 VSS, H5 VSS, H7 VSS, H8 VSS, H9 VSS, H10 VSS, H11 VSS, H12 VSS, H24 AVSS_USB, L21 AVSS_MPLL, M21 AVSS33_PLL, N25 GNDAUD_AUDIO, P23 GNDAUD_AUDIO, R23 GNDAUD_AUDIO, T3 AGND_MIPIS, T4 AGND_MIPIS, T5 AGND_MIPIS, T22 GNDAUD_AUDIO, T23 GNDAUD_AUDIO, V3 AGND_MIPIS, V4 AGND_MIPIS
part J pins: H13 VSS, H14 VSS, H15 VSS, H16 VSS, H17 VSS, H18 VSS, H19 VSS, H21 VSS, J7 VSS, J8 VSS, J9 VSS, J10 VSS, J11 VSS, J12 VSS, J13 VSS, J14 VSS, J15 VSS, J16 VSS, J17 VSS, J18 VSS, J19 VSS, J23 VSS, K7 VSS, K8 VSS, K9 VSS, K10 VSS, K11 VSS, K12 VSS, K13 VSS, K14 VSS, K15 VSS, K16 VSS, K17 VSS, K18 VSS, K19 VSS, K23 VSS, L7 VSS, L8 VSS, L9 VSS, L10 VSS, L11 VSS, L12 VSS, L13 VSS, L14 VSS, L15 VSS, L16 VSS, L17 VSS, L18 VSS, L19 VSS, L23 VSS, L24 VSS, L25 VSS, M5 VSS, M7 VSS, M8 VSS, M9 VSS, M10 VSS, M11 VSS, M12 VSS, M13 VSS, M14 VSS, M15 VSS, M16 VSS, M17 VSS, M18 VSS, M19 VSS, N4 VSS, N7 VSS, N8 VSS, N9 VSS, N10 VSS, N11 VSS
part K pins: N12 VSS, N13 VSS, N14 VSS, N15 VSS, N16 VSS, N17 VSS, N18 VSS, N19 VSS, N22 VSS, N23 VSS, P7 VSS, P8 VSS, P9 VSS, P10 VSS, P11 VSS, P12 VSS, P13 VSS, P14 VSS, P15 VSS, P16 VSS, P17 VSS, P18 VSS, P19 VSS, R7 VSS, R8 VSS, R9 VSS, R10 VSS, R11 VSS, R12 VSS, R13 VSS, R14 VSS, R15 VSS, R16 VSS, R17 VSS, R18 VSS, R19 VSS, R22 VSS, T7 VSS, T8 VSS, T9 VSS, T10 VSS, T11 VSS, T12 VSS, T13 VSS, T14 VSS, T15 VSS, T16 VSS, T17 VSS, T18 VSS, T19 VSS, T21 VSS, U7 VSS, U8 VSS, U9 VSS, U10 VSS, U11 VSS, U12 VSS, U13 VSS, U14 VSS, U15 VSS, U16 VSS, U17 VSS, U18 VSS, U22 VSS, U23 VSS, U24 VSS, U25 VSS, V8 VSS, V9 VSS, V10 VSS, V11 VSS, V12 VSS
part L pins: AA5 VSS, AA6 VSS, AA7 VSS, AA9 VSS, AA12 VSS, AA15 VSS, AA16 VSS, AA20 VSS, AA21 VSS, AB3 VSS, AB9 VSS, AB12 VSS, AB15 VSS, AB16 VSS, AB19 VSS, AC7 VSS, AC16 VSS, AC18 VSS, AC23 VSS, AD2 VSS, AD6 VSS, AD9 VSS, AD14 VSS, AD22 VSS, AE4 VSS, AE12 VSS, AE19 VSS, AE25 VSS, V13 VSS, V14 VSS, V15 VSS, V16 VSS, V17 VSS, V18 VSS, V21 VSS, V22 VSS, W8 VSS, W9 VSS, W10 VSS, W16 VSS, W17 VSS, W23 VSS

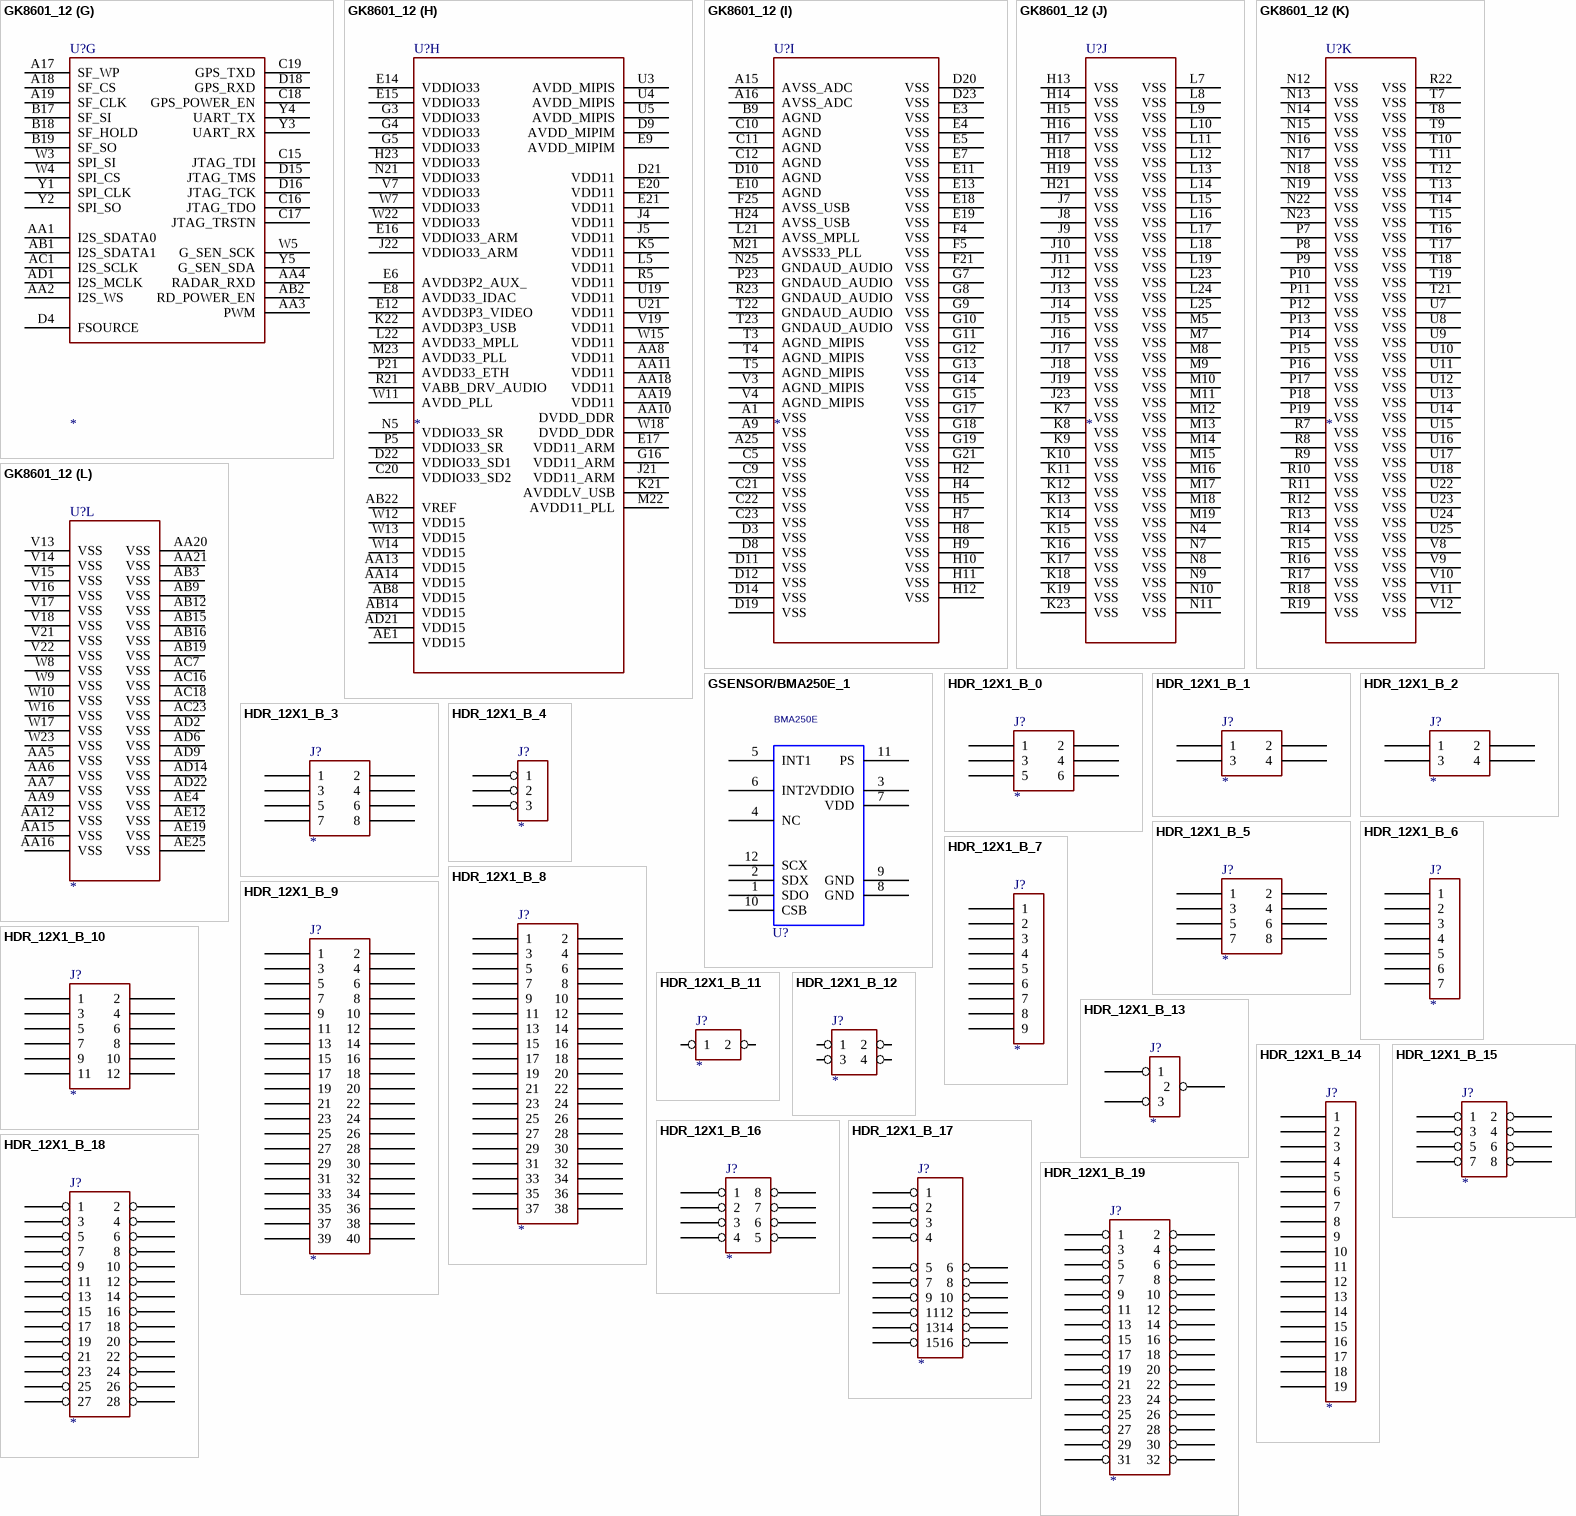
[diagram p19: symbols GK8601_12 to HDR_12X1_B_19]